# Altium schematic symbol library IC.SCHLIB: 146 symbols (part 1 of 2)
Pins are listed as number, name and electrical type; pins without a type are passive.

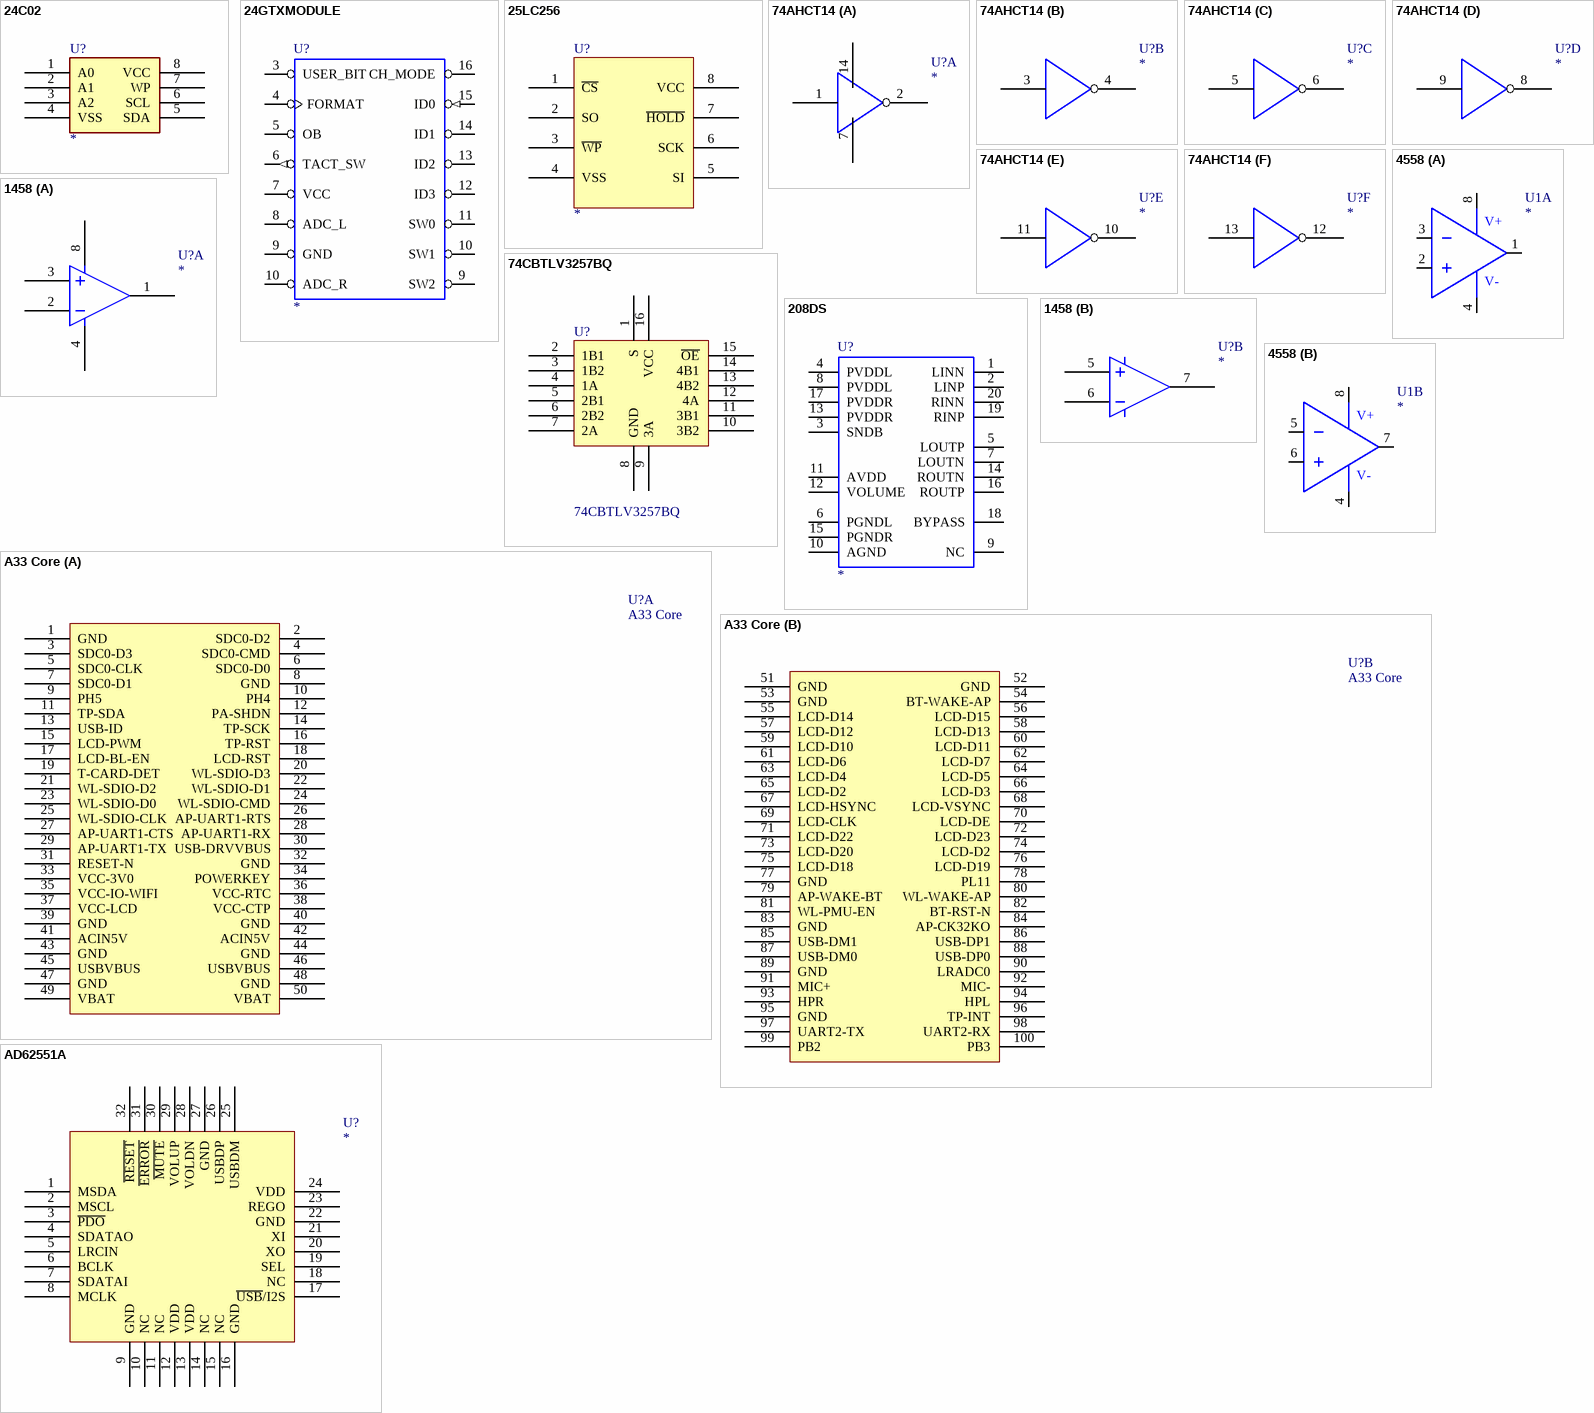
[diagram p0: symbols 24C02 to AD62551A]

## 24C02
designator U?
footprint SOP8
pins: 1 A0, 2 A1, 3 A2, 4 VSS, 5 SDA, 6 SCL, 7 WP, 8 VCC
2 alternate drawings of the same symbol

## 24GTXMODULE
designator U?
Connector
footprint 24GTXMODULE
pins: 3 USER_BIT, 4 FORMAT, 5 OB, 6 TACT_SW (out), 7 VCC, 8 ADC_L, 9 GND, 9 SW2, 10 ADC_R, 10 SW1, 11 SW0, 12 ID3, 13 ID2, 14 ID1, 15 ID0 (in), 16 CH_MODE

## 25LC256
designator U?
footprint 25LC256
pins: 1 ~{CS}, 2 SO, 3 ~{WP}, 4 VSS, 5 SI, 6 SCK, 7 ~{HOLD}, 8 VCC

## 74AHCT14
designator U?
footprint DIP-IC14
footprint DIP-IC14-1
part A pins: 1, 2, 7, 14
part B pins: 3, 4
part C pins: 5, 6
part D pins: 8, 9
part E pins: 10, 11
part F pins: 12, 13

## 74CBTLV3257BQ
designator U?
pins: 1 S, 2 1B1, 3 1B2, 4 1A, 5 2B1, 6 2B2, 7 2A, 8 GND, 9 3A, 10 3B2, 11 3B1, 12 4A, 13 4B2, 14 4B1, 15 ~{OE}, 16 VCC

## 208DS
designator U?
footprint SSOP20
footprint 208DS
pins: 1 LINN, 2 LINP, 3 SNDB, 4 PVDDL, 5 LOUTP, 6 PGNDL, 7 LOUTN, 8 PVDDL, 9 NC, 10 AGND, 11 AVDD, 12 VOLUME, 13 PVDDR, 14 ROUTN, 15 PGNDR, 16 ROUTP, 17 PVDDR, 18 BYPASS, 19 RINP, 20 RINN

## 1458
designator U?
footprint DIP-8
part A pins: 1, 2, 3, 4, 8
part B pins: 5, 6, 7

## 4558
designator U1
Filename: *
footprint SO-8
part A pins: 1 OUT2, 2 IN+, 3 IN-, 4 V-, 8 V+
part B pins: 4 V-, 5 IN-, 6 IN+, 7 OUT2, 8 V+
2 alternate drawings of the same symbol

## A33 Core
designator U?
part A pins: 1 GND, 2 SDC0-D2, 3 SDC0-D3, 4 SDC0-CMD, 5 SDC0-CLK, 6 SDC0-D0, 7 SDC0-D1, 8 GND, 9 PH5, 10 PH4, 11 TP-SDA, 12 PA-SHDN, 13 USB-ID, 14 TP-SCK, 15 LCD-PWM, 16 TP-RST, 17 LCD-BL-EN, 18 LCD-RST, 19 T-CARD-DET, 20 WL-SDIO-D3, 21 WL-SDIO-D2, 22 WL-SDIO-D1, 23 WL-SDIO-D0, 24 WL-SDIO-CMD, 25 WL-SDIO-CLK, 26 AP-UART1-RTS, 27 AP-UART1-CTS, 28 AP-UART1-RX, 29 AP-UART1-TX, 30 USB-DRVVBUS, 31 RESET-N, 32 GND, 33 VCC-3V0, 34 POWERKEY, 35 VCC-IO-WIFI, 36 VCC-RTC, 37 VCC-LCD, 38 VCC-CTP, 39 GND, 40 GND, 41 ACIN5V, 42 ACIN5V, 43 GND, 44 GND, 45 USBVBUS, 46 USBVBUS, 47 GND, 48 GND, 49 VBAT, 50 VBAT
part B pins: 51 GND, 52 GND, 53 GND, 54 BT-WAKE-AP, 55 LCD-D14, 56 LCD-D15, 57 LCD-D12, 58 LCD-D13, 59 LCD-D10, 60 LCD-D11, 61 LCD-D6, 62 LCD-D7, 63 LCD-D4, 64 LCD-D5, 65 LCD-D2, 66 LCD-D3, 67 LCD-HSYNC, 68 LCD-VSYNC, 69 LCD-CLK, 70 LCD-DE, 71 LCD-D22, 72 LCD-D23, 73 LCD-D20, 74 LCD-D2, 75 LCD-D18, 76 LCD-D19, 77 GND, 78 PL11, 79 AP-WAKE-BT, 80 WL-WAKE-AP, 81 WL-PMU-EN, 82 BT-RST-N, 83 GND, 84 AP-CK32KO, 85 USB-DM1, 86 USB-DP1, 87 USB-DM0, 88 USB-DP0, 89 GND, 90 LRADC0, 91 MIC+, 92 MIC-, 93 HPR, 94 HPL, 95 GND, 96 TP-INT, 97 UART2-TX, 98 UART2-RX, 99 PB2, 100 PB3

## AD62551A
designator U?
Connector
footprint IC32
pins: 1 MSDA, 2 MSCL, 3 ~{PDO}, 4 SDATAO, 5 LRCIN, 6 BCLK, 7 SDATAI, 8 MCLK, 9 GND, 10 NC, 11 NC, 12 VDD, 13 VDD, 14 NC, 15 NC, 16 GND, 17 ~{USB}/I2S, 18 NC, 19 SEL, 20 XO, 21 XI, 22 GND, 23 REGO, 24 VDD, 25 USBDM, 26 USBDP, 27 GND, 28 VOLDN, 29 VOLUP, 30 ~{MUTE}, 31 ~{ERROR}, 32 ~{RESET}

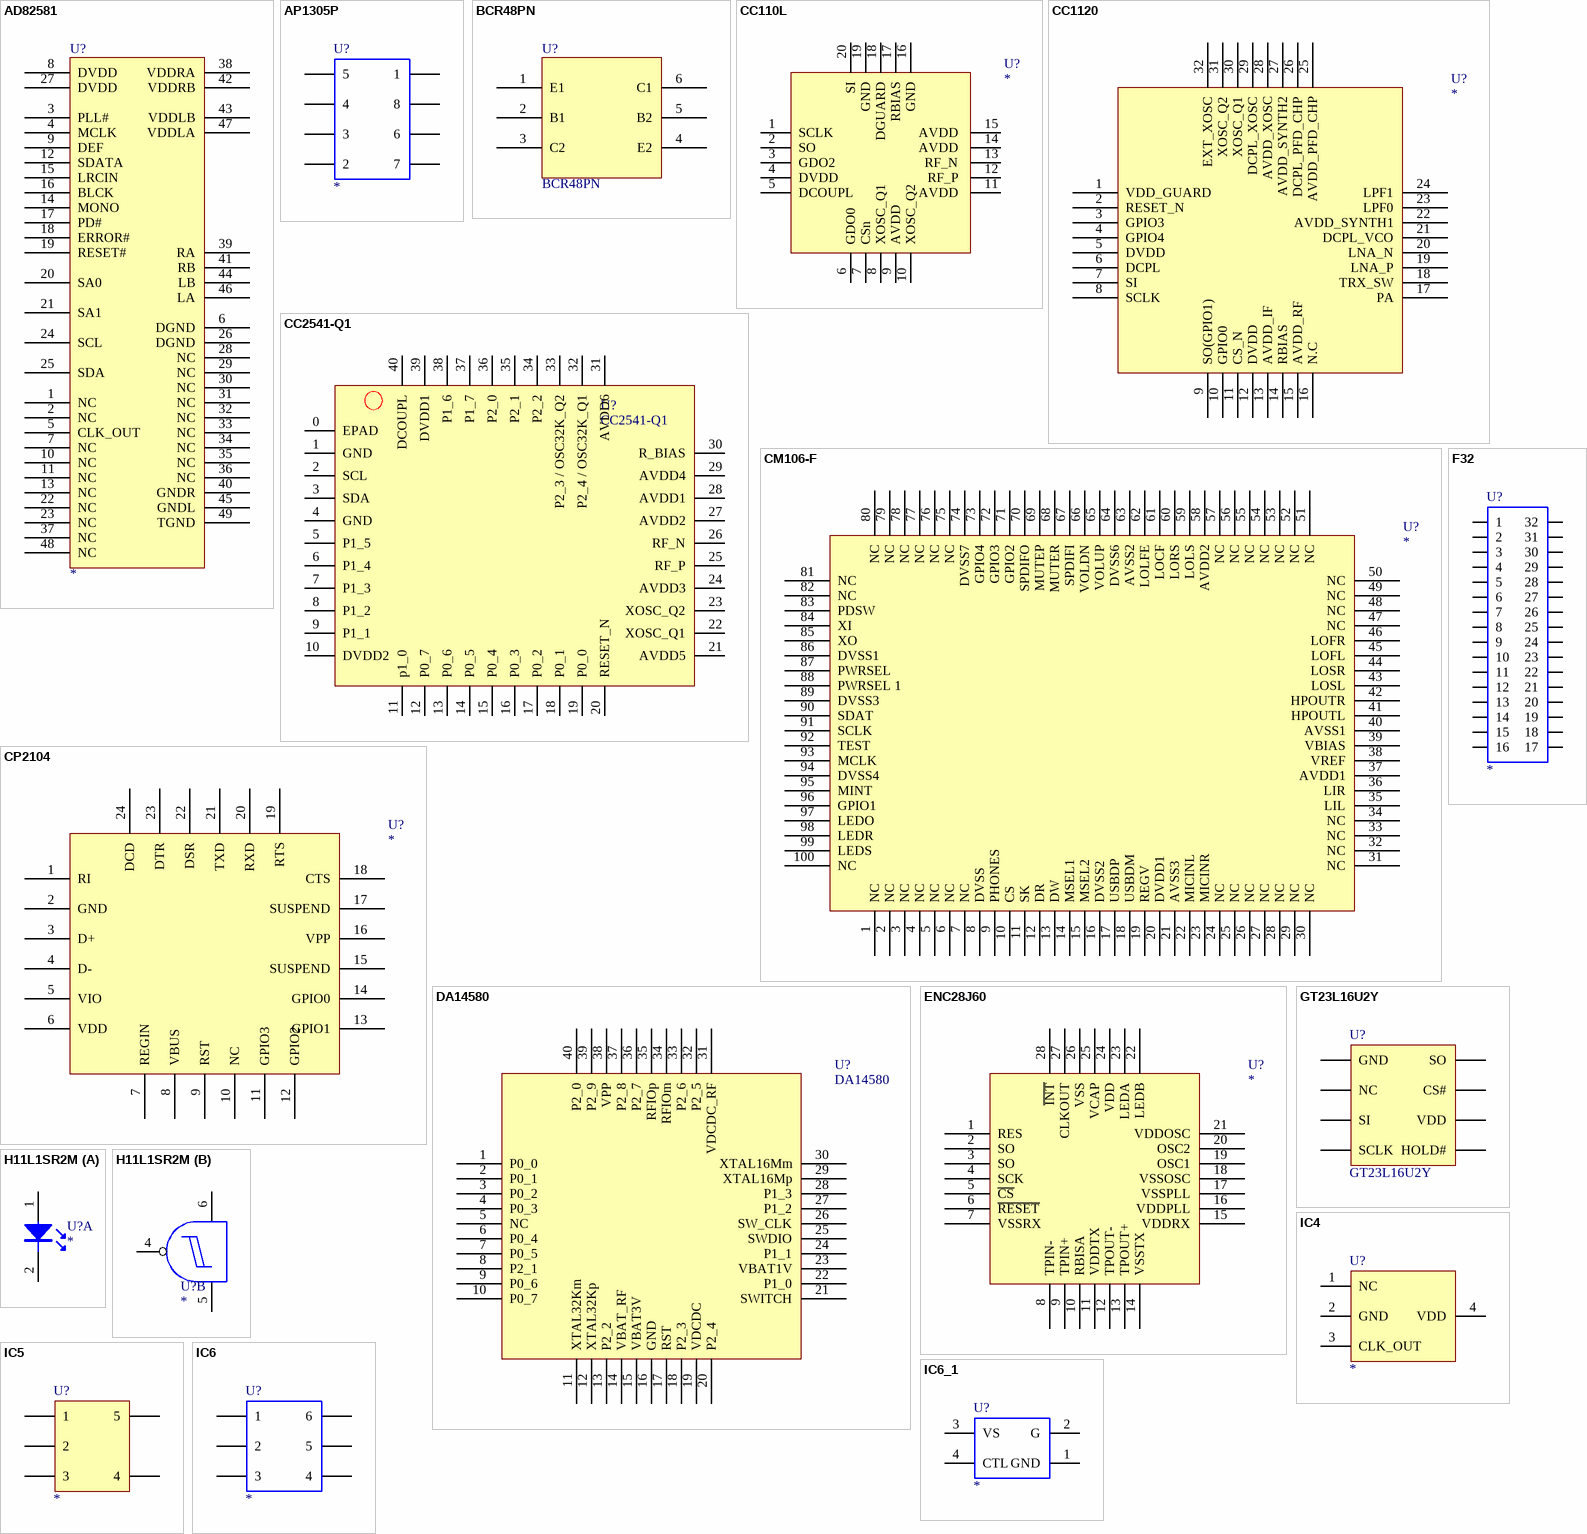
[diagram p1: symbols AD82581 to IC6_1]

## AD82581
designator U?
footprint S-PQFP-G48-2
pins: 1 NC, 2 NC, 3 PLL#, 4 MCLK, 5 CLK_OUT, 6 DGND, 7 NC, 8 DVDD, 9 DEF, 10 NC, 11 NC, 12 SDATA, 13 NC, 14 MONO, 15 LRCIN, 16 BLCK, 17 PD#, 18 ERROR#, 19 RESET#, 20 SA0, 21 SA1, 22 NC, 23 NC, 24 SCL, 25 SDA, 26 DGND, 27 DVDD, 28 NC, 29 NC, 30 NC, 31 NC, 32 NC, 33 NC, 34 NC, 35 NC, 36 NC, 37 NC, 38 VDDRA, 39 RA, 40 GNDR, 41 RB, 42 VDDRB, 43 VDDLB, 44 LB, 45 GNDL, 46 LA, 47 VDDLA, 48 NC, 49 TGND

## AP1305P
designator U?
footprint IC8
pins: 1, 2 8, 3 6, 4 7, 5 2, 6 3, 7 4, 8 5

## BCR48PN
designator U?
footprint SOT-23-6-0.65MM
pins: 1 E1, 2 B1, 3 C2, 4 E2, 5 B2, 6 C1
2 alternate drawings of the same symbol

## CC110L
designator U?
footprint QFN-20
pins: 1 SCLK , 2 SO , 3 GDO2  , 4 DVDD , 5 DCOUPL , 6 GDO0 , 7 CSn , 8 XOSC_Q1 , 9 AVDD , 10 XOSC_Q2  , 11 AVDD , 12 RF_P , 13 RF_N , 14 AVDD , 15 AVDD , 16 GND, 17 RBIAS, 18 DGUARD, 19 GND, 20 SI

## CC1120
designator U?
Connector
footprint CC1120
pins: 1 VDD_GUARD, 2 RESET_N, 3 GPIO3, 4 GPIO4, 5 DVDD, 6 DCPL, 7 SI, 8 SCLK, 9 SO(GPIO1), 10 GPIO0, 11 CS_N, 12 DVDD, 13 AVDD_IF, 14 RBIAS, 15 AVDD_RF, 16 N.C, 17 PA, 18 TRX_SW, 19 LNA_P, 20 LNA_N, 21 DCPL_VCO, 22 AVDD_SYNTH1, 23 LPF0, 24 LPF1, 25 AVDD_PFD_CHP, 26 DCPL_PFD_CHP, 27 AVDD_SYNTH2, 28 AVDD_XOSC, 29 DCPL_XOSC, 30 XOSC_Q1, 31 XOSC_Q2, 32 EXT_XOSC

## CC2541-Q1
designator U?
Connector
pins: 0 EPAD "RESET_N", 1 GND, 2 SCL, 3 SDA, 4 GND "NC", 5 P1_5, 6 P1_4, 7 P1_3, 8 P1_2, 9 P1_1, 10 DVDD2, 11 p1_0, 12 P0_7, 13 P0_6, 14 P0_5, 15 P0_4, 16 P0_3, 17 P0_2, 18 P0_1, 19 P0_0, 20 RESET_N, 21 AVDD5, 22 XOSC_Q1, 23 XOSC_Q2, 24 AVDD3, 25 RF_P, 26 RF_N, 27 AVDD2, 28 AVDD1, 29 AVDD4, 30 R_BIAS, 31 AVDD6, 32 P2_4 / OSC32K_Q1, 33 P2_3 / OSC32K_Q2, 34 P2_2, 35 P2_1, 36 P2_0, 37 P1_7, 38 P1_6, 39 DVDD1, 40 DCOUPL

## CM106-F
designator U?
USB Audio I/O Controller
footprint QFP100
pins: 1 NC, 2 NC, 3 NC, 4 NC, 5 NC, 6 NC, 7 NC, 8 DVSS, 9 PHONES, 10 CS, 11 SK, 12 DR, 13 DW, 14 MSEL1, 15 MSEL2, 16 DVSS2, 17 USBDP, 18 USBDM, 19 REGV, 20 DVDD1, 21 AVSS3, 22 MICINL, 23 MICINR, 24 NC, 25 NC, 26 NC, 27 NC, 28 NC, 29 NC, 30 NC, 31 NC, 32 NC, 33 NC, 34 NC, 35 LIL, 36 LIR, 37 AVDD1, 38 VREF, 39 VBIAS, 40 AVSS1, 41 HPOUTL, 42 HPOUTR, 43 LOSL, 44 LOSR, 45 LOFL, 46 LOFR, 47 NC, 48 NC, 49 NC, 50 NC, 51 NC, 52 NC, 53 NC, 54 NC, 55 NC, 56 NC, 57 NC, 58 AVDD2, 59 LOLS, 60 LORS, 61 LOCF, 62 LOLFE, 63 AVSS2, 64 DVSS6, 65 VOLUP, 66 VOLDN, 67 SPDIFI, 68 MUTER, 69 MUTEP, 70 SPDIFO, 71 GPIO2, 72 GPIO3, 73 GPIO4, 74 DVSS7, 75 NC, 76 NC, 77 NC, 78 NC, 79 NC, 80 NC, 81 NC, 82 NC, 83 PDSW, 84 XI, 85 XO, 86 DVSS1, 87 PWRSEL, 88 PWRSEL 1, 89 DVSS3, 90 SDAT, 91 SCLK, 92 TEST, 93 MCLK, 94 DVSS4, 95 MINT, 96 GPIO1, 97 LEDO, 98 LEDR, 99 LEDS, 100 NC

## CP2104
designator U?
footprint QFN-24-0.5MM-4X4
pins: 1 RI, 2 GND, 3 D+, 4 D-, 5 VIO, 6 VDD, 7 REGIN, 8 VBUS, 9 RST, 10 NC, 11 GPIO3, 12 GPIO2, 13 GPIO1, 14 GPIO0, 15 SUSPEND, 16 VPP, 17 SUSPEND, 18 CTS, 19 RTS, 20 RXD, 21 TXD, 22 DSR, 23 DTR, 24 DCD
2 alternate drawings of the same symbol

## DA14580
designator U?
Connector
pins: 1 P0_0, 2 P0_1, 3 P0_2, 4 P0_3, 5 NC, 6 P0_4, 7 P0_5, 8 P2_1, 9 P0_6, 10 P0_7, 11 XTAL32Km, 12 XTAL32Kp, 13 P2_2, 14 VBAT_RF, 15 VBAT3V, 16 GND, 17 RST, 18 P2_3, 19 VDCDC, 20 P2_4, 21 SWITCH, 22 P1_0, 23 VBAT1V, 24 P1_1, 25 SWDIO, 26 SW_CLK, 27 P1_2, 28 P1_3, 29 XTAL16Mp, 30 XTAL16Mm, 31 VDCDC_RF, 32 P2_5, 33 P2_6, 34 RFIOm, 35 RFIOp, 36 P2_7, 37 P2_8, 38 VPP, 39 P2_9, 40 P2_0

## ENC28J60
designator U?
footprint IC28
pins: 1 RES, 2 SO, 3 SO, 4 SCK, 5 ~{CS}, 6 ~{RESET}, 7 VSSRX, 8 TPIN-, 9 TPIN+, 10 RBISA, 11 VDDTX, 12 TPOUT-, 13 TPOUT+, 14 VSSTX, 15 VDDRX, 16 VDDPLL, 17 VSSPLL, 18 VSSOSC, 19 OSC1, 20 OSC2, 21 VDDOSC, 22 LEDB, 23 LEDA, 24 VDD, 25 VCAP, 26 VSS, 27 CLKOUT, 28 ~{INT}

## F32
designator U?
Connector
footprint F32
pins: 1, 2, 3, 4, 5, 6, 7, 8, 9, 10, 11, 12, 13, 14, 15, 16, 17, 18, 19, 20, 21, 22, 23, 24, 25, 26, 27, 28, 29, 30, 31, 32

## GT23L16U2Y
designator U?
footprint DNF8-A-GT23L16U2Y (Footprint not found)
footprint MSOP8
footprint DIC8
pins: 1 GND, 2 NC, 3 SI, 4 SCLK, 5 HOLD#, 6 VDD, 7 CS#, 8 SO

## H11L1SR2M
designator U?
part A pins: 1, 2
part B pins: 4, 5, 6

## IC4
designator U?
footprint IC5
pins: 1 NC, 2 GND, 3 CLK_OUT, 4 VDD

## IC5
designator U?
footprint IC5
pins: 1, 2, 3, 4, 5

## IC6
designator U?
footprint IC6
pins: 1, 2, 3, 4, 5, 6

## IC6_1
designator U?
pins: 1 GND, 2 G, 3 VS, 4 CTL

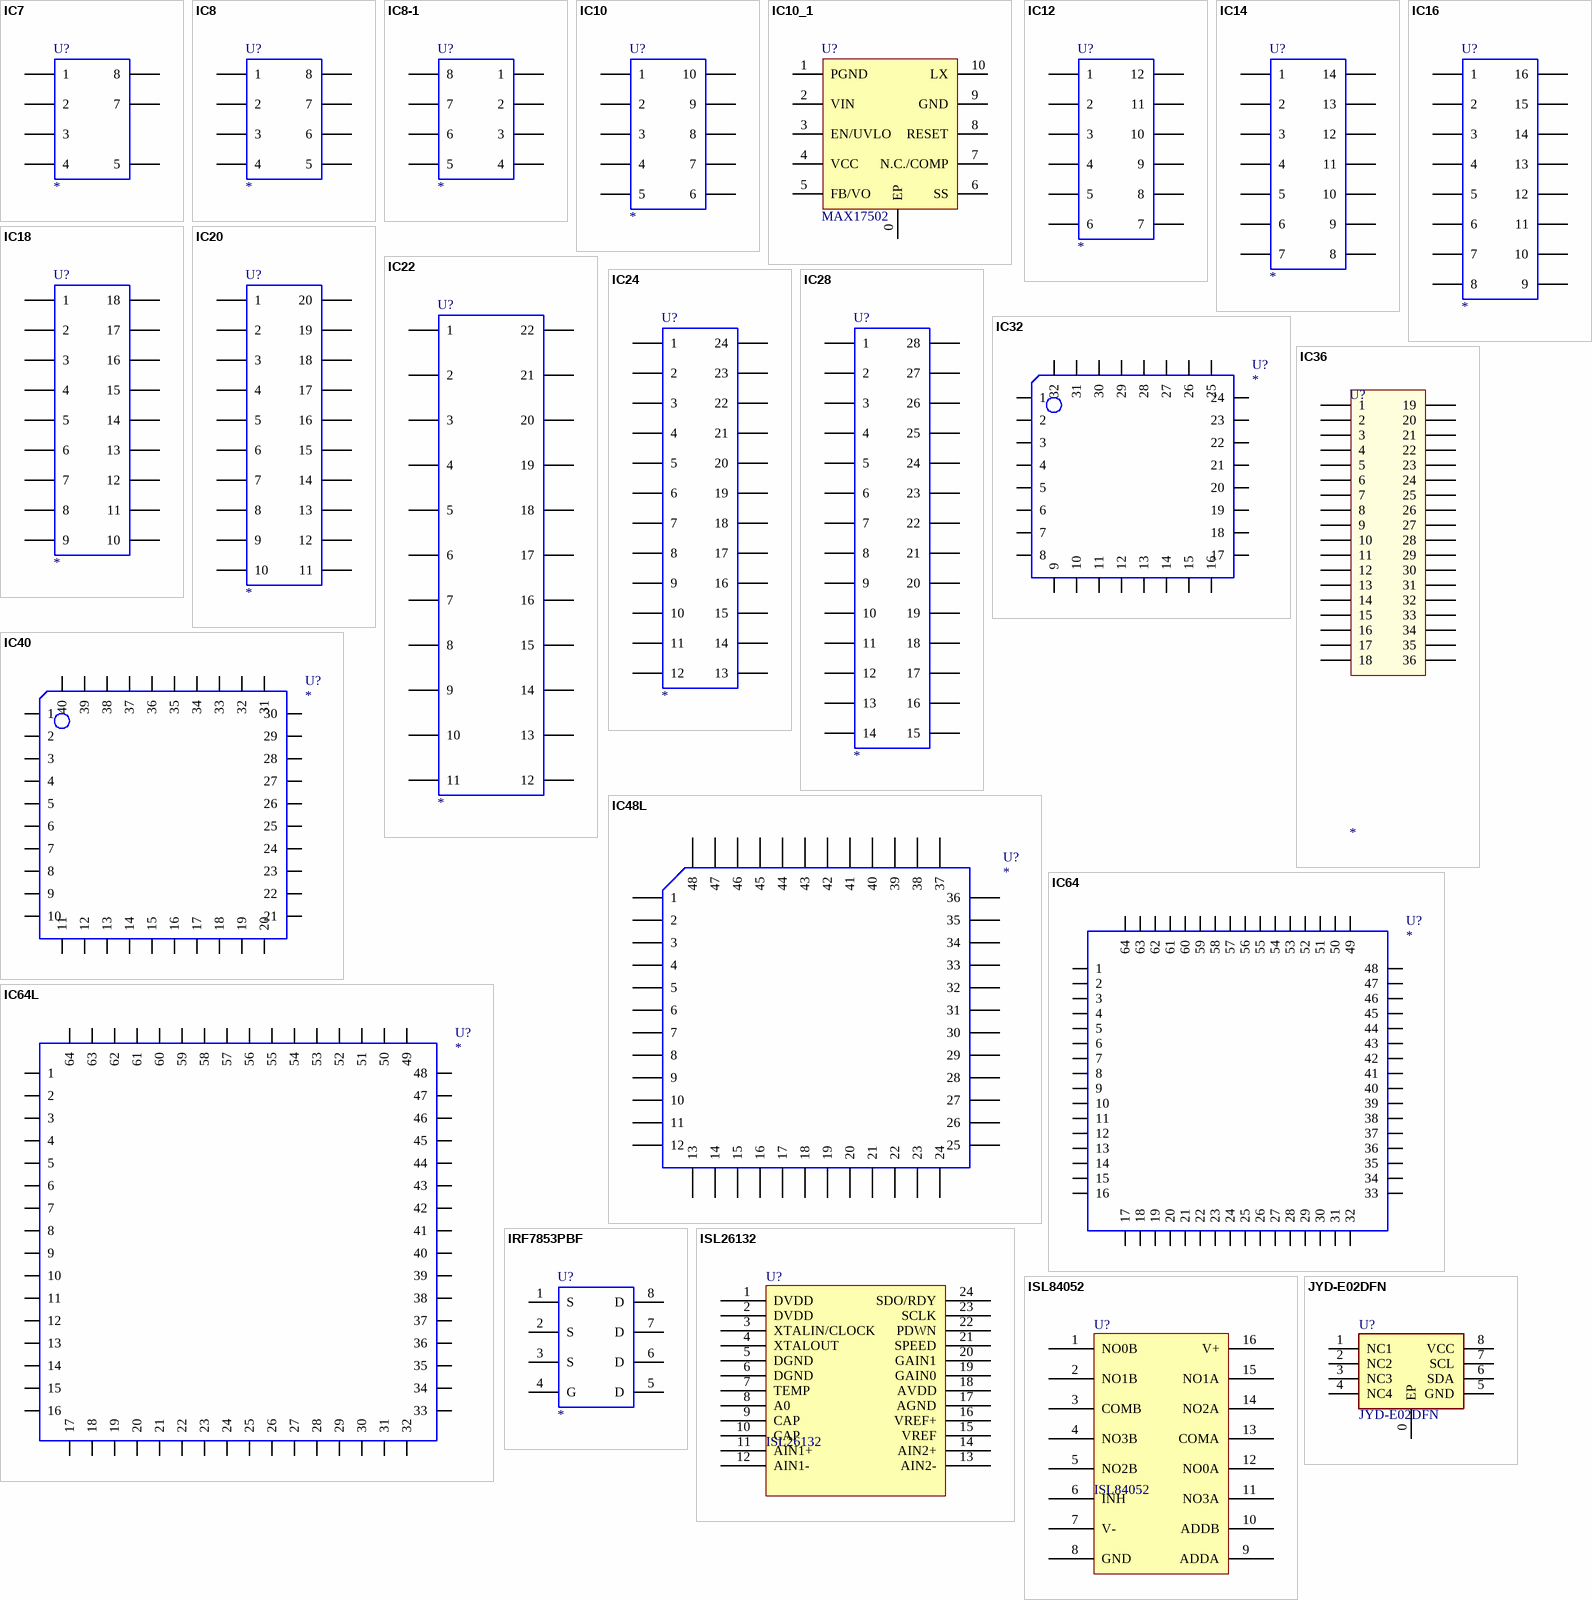
[diagram p2: symbols IC7 to JYD-E02DFN]

## IC7
designator U?
footprint SMD-8B
pins: 1, 2, 3, 4, 5, 7, 8

## IC8
designator U?
footprint IC8
footprint MSOP8
footprint DIC8
pins: 1, 2, 3, 4, 5, 6, 7, 8

## IC8-1
designator U?
footprint IC8
pins: 1, 2, 3, 4, 5, 6, 7, 8

## IC10
designator U?
footprint MIC10
pins: 1, 2, 3, 4, 5, 6, 7, 8, 9, 10

## IC10_1
designator U?, comment MAX17502
footprint MIC10
pins: 0 EP, 1 PGND, 2 VIN, 3 EN/UVLO, 4 VCC, 5 FB/VO, 6 SS, 7 N.C./COMP, 8 RESET, 9 GND, 10 LX

## IC12
designator U?
footprint DIE12
pins: 1, 2, 3, 4, 5, 6, 7, 8, 9, 10, 11, 12

## IC14
designator U?
footprint IC14
pins: 1, 2, 3, 4, 5, 6, 7, 8, 9, 10, 11, 12, 13, 14

## IC16
designator U?
footprint IC16
footprint SEN16
footprint SEN16A
pins: 1, 2, 3, 4, 5, 6, 7, 8, 9, 10, 11, 12, 13, 14, 15, 16

## IC18
designator U?
footprint IC18MA
footprint IC18
footprint DIP18
pins: 1, 2, 3, 4, 5, 6, 7, 8, 9, 10, 11, 12, 13, 14, 15, 16, 17, 18

## IC20
designator U?
footprint SEN20
footprint DIP18A
footprint IC20
footprint TSSOP20
pins: 1, 2, 3, 4, 5, 6, 7, 8, 9, 10, 11, 12, 13, 14, 15, 16, 17, 18, 19, 20

## IC22
designator U?
footprint IC22
pins: 1, 2, 3, 4, 5, 6, 7, 8, 9, 10, 11, 12, 13, 14, 15, 16, 17, 18, 19, 20, 21, 22

## IC24
designator U?
footprint SEN24
pins: 1, 2, 3, 4, 5, 6, 7, 8, 9, 10, 11, 12, 13, 14, 15, 16, 17, 18, 19, 20, 21, 22, 23, 24

## IC28
designator U?
footprint IC28
pins: 1, 2, 3, 4, 5, 6, 7, 8, 9, 10, 11, 12, 13, 14, 15, 16, 17, 18, 19, 20, 21, 22, 23, 24, 25, 26, 27, 28

## IC32
designator U?
Connector
footprint IC32
pins: 1, 2, 3, 4, 5, 6, 7, 8, 9, 10, 11, 12, 13, 14, 15, 16, 17, 18, 19, 20, 21, 22, 23, 24, 25, 26, 27, 28, 29, 30, 31, 32

## IC36
designator U?
footprint IC28
pins: 1, 2, 3, 4, 5, 6, 7, 8, 9, 10, 11, 12, 13, 14, 15, 16, 17, 18, 19, 20, 21, 22, 23, 24, 25, 26, 27, 28, 29, 30, 31, 32, 33, 34, 35, 36

## IC40
designator U?
Connector
pins: 1, 2, 3, 4, 5, 6, 7, 8, 9, 10, 11, 12, 13, 14, 15, 16, 17, 18, 19, 20, 21, 22, 23, 24, 25, 26, 27, 28, 29, 30, 31, 32, 33, 34, 35, 36, 37, 38, 39, 40

## IC48L
designator U?
footprint IC48
pins: 1, 2, 3, 4, 5, 6, 7, 8, 9, 10, 11, 12, 13, 14, 15, 16, 17, 18, 19, 20, 21, 22, 23, 24, 25, 26, 27, 28, 29, 30, 31, 32, 33, 34, 35, 36, 37, 38, 39, 40, 41, 42, 43, 44, 45, 46, 47, 48

## IC64
designator U?
footprint IC64
pins: 1, 2, 3, 4, 5, 6, 7, 8, 9, 10, 11, 12, 13, 14, 15, 16, 17, 18, 19, 20, 21, 22, 23, 24, 25, 26, 27, 28, 29, 30, 31, 32, 33, 34, 35, 36, 37, 38, 39, 40, 41, 42, 43, 44, 45, 46, 47, 48, 49, 50, 51, 52, 53, 54, 55, 56, 57, 58, 59, 60, 61, 62, 63, 64

## IC64L
designator U?
footprint IC64
pins: 1, 2, 3, 4, 5, 6, 7, 8, 9, 10, 11, 12, 13, 14, 15, 16, 17, 18, 19, 20, 21, 22, 23, 24, 25, 26, 27, 28, 29, 30, 31, 32, 33, 34, 35, 36, 37, 38, 39, 40, 41, 42, 43, 44, 45, 46, 47, 48, 49, 50, 51, 52, 53, 54, 55, 56, 57, 58, 59, 60, 61, 62, 63, 64

## IRF7853PBF
designator U?
footprint IC8
footprint MSOP8
footprint DIC8
pins: 1 S, 2 S, 3 S, 4 G, 5 D, 6 D, 7 D, 8 D

## ISL26132
designator U?
footprint 25LC256
pins: 1 DVDD, 2 DVDD, 3 XTALIN/CLOCK, 4 XTALOUT, 5 DGND, 6 DGND, 7 TEMP, 8 A0, 9 CAP, 10 CAP, 11 AIN1+, 12 AIN1-, 13 AIN2-, 14 AIN2+, 15 VREF, 16 VREF+, 17 AGND, 18 AVDD, 19 GAIN0, 20 GAIN1, 21 SPEED, 22 PDWN, 23 SCLK, 24 SDO/RDY

## ISL84052
designator U?
footprint 25LC256
pins: 1 NO0B, 2 NO1B, 3 COMB, 4 NO3B, 5 NO2B, 6 INH, 7 V-, 8 GND, 9 ADDA, 10 ADDB, 11 NO3A, 12 NO0A, 13 COMA, 14 NO2A, 15 NO1A, 16 V+

## JYD-E02DFN
designator U?
footprint DFN8_0-65P_3X3MM_0-8H
pins: 0 EP, 1 NC1, 2 NC2, 3 NC3, 4 NC4, 5 GND, 6 SDA, 7 SCL, 8 VCC
2 alternate drawings of the same symbol

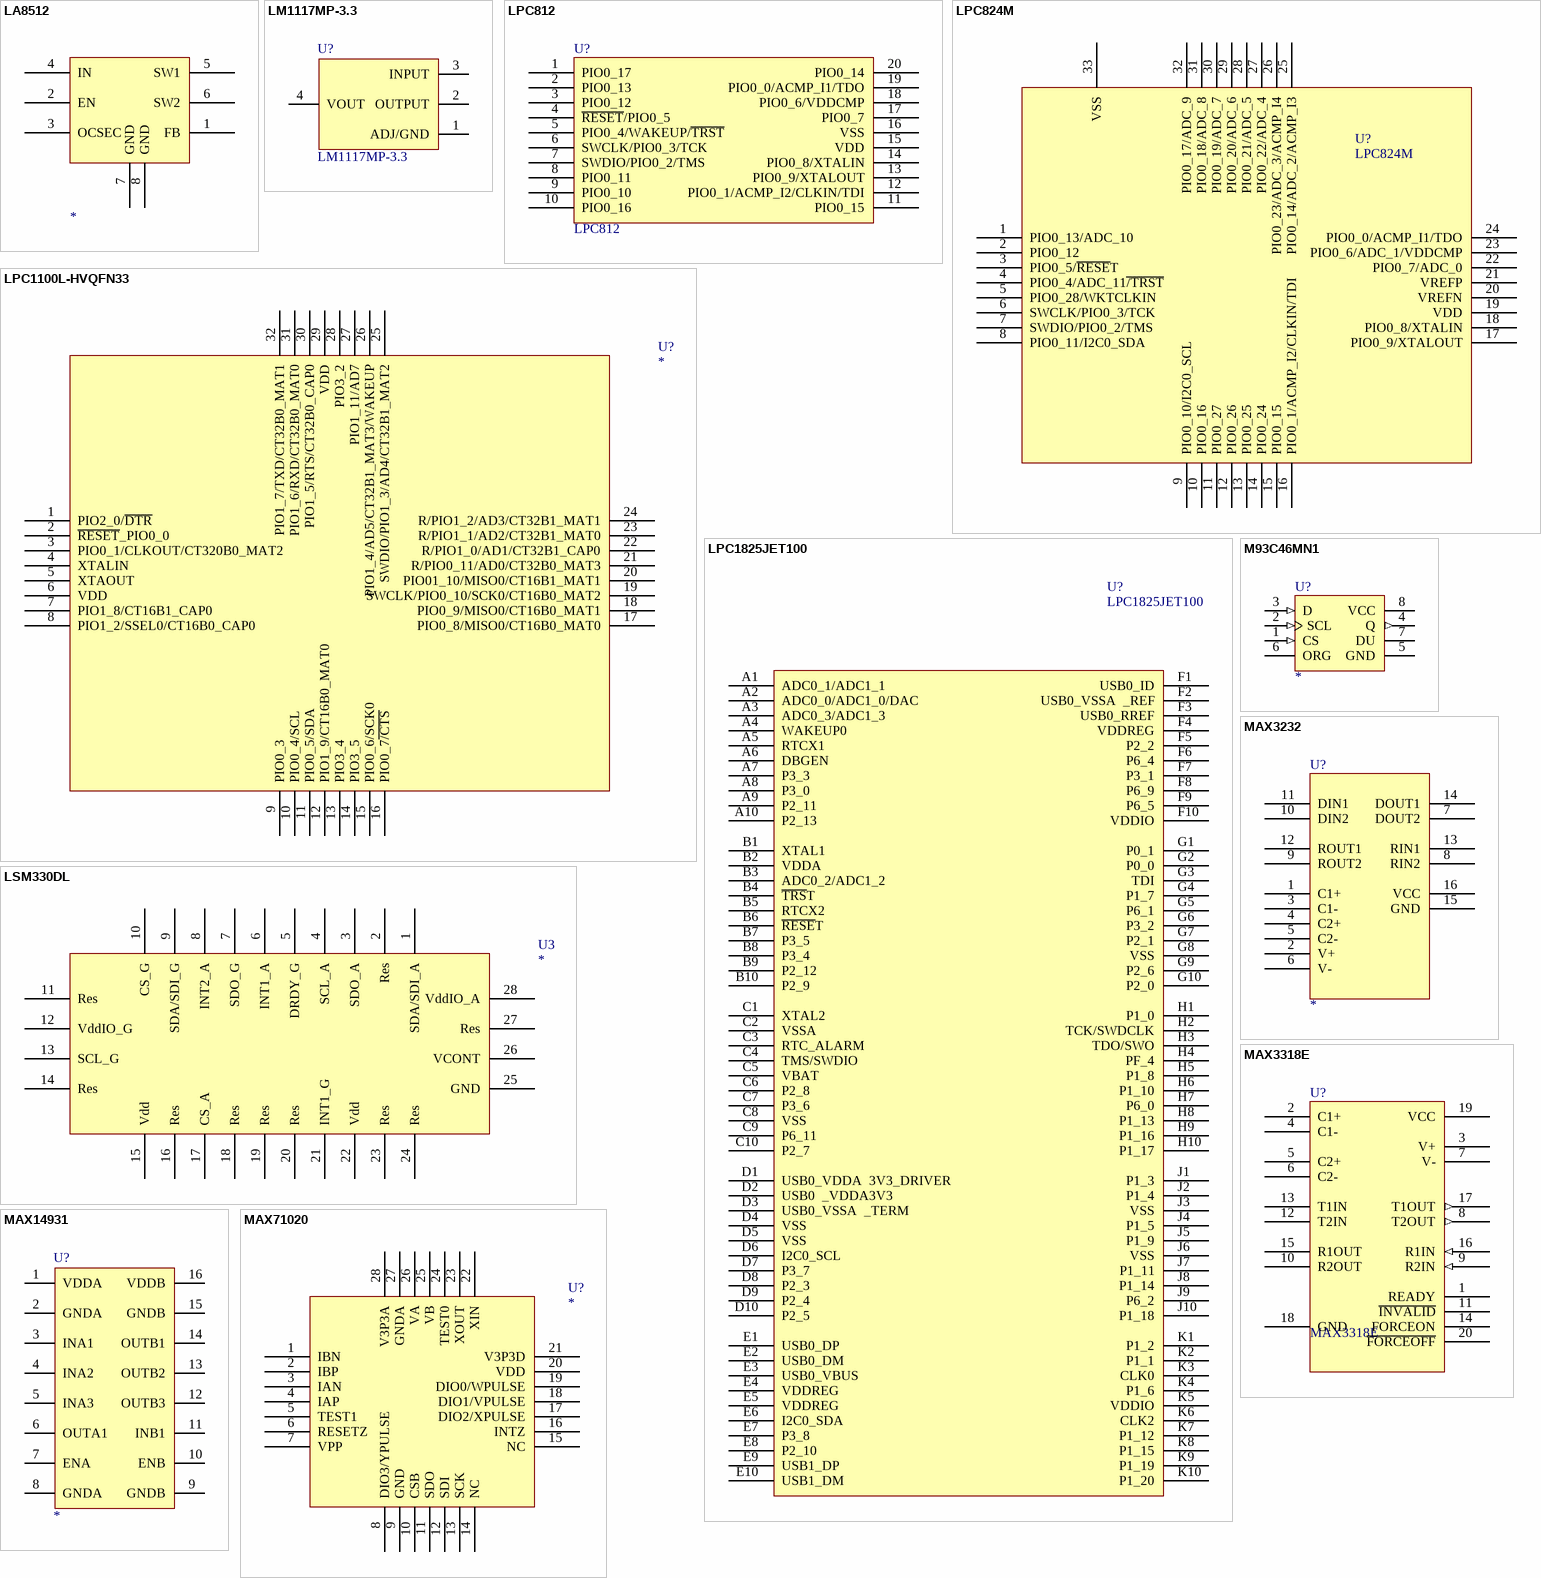
[diagram p3: symbols LA8512 to MAX71020]

## LA8512
designator ?
pins: 1 FB, 2 EN, 3 OCSEC, 4 IN, 5 SW1, 6 SW2, 7 GND, 8 GND

## LM1117MP-3.3
designator U?
footprint SOT-223-4
pins: 1 ADJ/GND, 2 OUTPUT, 3 INPUT, 4 VOUT

## LPC812
designator U?
footprint TSSOP20
pins: 1 PIO0_17, 2 PIO0_13, 3 PIO0_12, 4 ~{RESET}/PIO0_5, 5 PIO0_4/WAKEUP/~{TRST}, 6 SWCLK/PIO0_3/TCK, 7 SWDIO/PIO0_2/TMS, 8 PIO0_11, 9 PIO0_10, 10 PIO0_16, 11 PIO0_15, 12 PIO0_1/ACMP_I2/CLKIN/TDI, 13 PIO0_9/XTALOUT, 14 PIO0_8/XTALIN, 15 VDD, 16 VSS, 17 PIO0_7, 18 PIO0_6/VDDCMP, 19 PIO0_0/ACMP_I1/TDO, 20 PIO0_14

## LPC824M
designator U?
footprint HVQFN33-0.5MM-5X5-LPC824M
pins: 1 PIO0_13/ADC_10, 2 PIO0_12, 3 PIO0_5/~{RESE}T, 4 PIO0_4/ADC_11~{/TRST}, 5 PIO0_28/WKTCLKIN, 6 SWCLK/PIO0_3/TCK, 7 SWDIO/PIO0_2/TMS, 8 PIO0_11/I2C0_SDA, 9 PIO0_10/I2C0_SCL, 10 PIO0_16, 11 PIO0_27, 12 PIO0_26, 13 PIO0_25, 14 PIO0_24, 15 PIO0_15, 16 PIO0_1/ACMP_I2/CLKIN/TDI, 17 PIO0_9/XTALOUT, 18 PIO0_8/XTALIN, 19 VDD, 20 VREFN, 21 VREFP, 22 PIO0_7/ADC_0, 23 PIO0_6/ADC_1/VDDCMP, 24 PIO0_0/ACMP_I1/TDO, 25 PIO0_14/ADC_2/ACMP_I3, 26 PIO0_23/ADC_3/ACMP_I4, 27 PIO0_22/ADC_4, 28 PIO0_21/ADC_5, 29 PIO0_20/ADC_6, 30 PIO0_19/ADC_7, 31 PIO0_18/ADC_8, 32 PIO0_17/ADC_9, 33 VSS

## LPC1100L-HVQFN33
designator U?
Connector
footprint HVQFN33
pins: 1 PIO2_0/~{DTR}, 2 ~{RESET}_PIO0_0, 3 PIO0_1/CLKOUT/CT320B0_MAT2, 4 XTALIN, 5 XTAOUT, 6 VDD, 7 PIO1_8/CT16B1_CAP0, 8 PIO1_2/SSEL0/CT16B0_CAP0, 9 PIO0_3, 10 PIO0_4/SCL, 11 PIO0_5/SDA, 12 PIO1_9/CT16B0_MAT0, 13 PIO3_4, 14 PIO3_5, 15 PIO0_6/SCK0, 16 PIO0_7~{/CTS}, 17 PIO0_8/MISO0/CT16B0_MAT0, 18 PIO0_9/MISO0/CT16B0_MAT1, 19 SWCLK/PIO0_10/SCK0/CT16B0_MAT2, 20 PIO01_10/MISO0/CT16B1_MAT1, 21 R/PIO0_11/AD0/CT32B0_MAT3, 22 R/PIO1_0/AD1/CT32B1_CAP0, 23 R/PIO1_1/AD2/CT32B1_MAT0, 24 R/PIO1_2/AD3/CT32B1_MAT1, 25 SWDIO/PIO1_3/AD4/CT32B1_MAT2, 26 PIO1_4/AD5/CT32B1_MAT3/WAKEUP, 27 PIO1_11/AD7, 28 PIO3_2, 29 VDD, 30 PIO1_5/RTS/CT32B0_CAP0, 31 PIO1_6/RXD/CT32B0_MAT0, 32 PIO1_7/TXD/CT32B0_MAT1

## LPC1825JET100
designator U?
pins: A1 ADC0_1/ADC1_1, A2 ADC0_0/ADC1_0/DAC, A3 ADC0_3/ADC1_3, A4 WAKEUP0, A5 RTCX1, A6 DBGEN, A7 P3_3, A8 P3_0, A9 P2_11, A10 P2_13, B1 XTAL1, B2 VDDA, B3 ADC0_2/ADC1_2, B4 ~{TRS}T, B5 RTCX2, B6 ~{RESE}T, B7 P3_5, B8 P3_4, B9 P2_12, B10 P2_9, C1 XTAL2, C2 VSSA, C3 RTC_ALARM, C4 TMS/SWDIO, C5 VBAT, C6 P2_8, C7 P3_6, C8 VSS, C9 P6_11, C10 P2_7, D1 USB0_VDDA  3V3_DRIVER, D2 USB0  _VDDA3V3, D3 USB0_VSSA  _TERM, D4 VSS, D5 VSS, D6 I2C0_SCL, D7 P3_7, D8 P2_3, D9 P2_4, D10 P2_5, E1 USB0_DP, E2 USB0_DM, E3 USB0_VBUS, E4 VDDREG, E5 VDDREG, E6 I2C0_SDA, E7 P3_8, E8 P2_10, E9 USB1_DP, E10 USB1_DM, F1 USB0_ID, F2 USB0_VSSA  _REF, F3 USB0_RREF, F4 VDDREG, F5 P2_2, F6 P6_4, F7 P3_1, F8 P6_9, F9 P6_5, F10 VDDIO, G1 P0_1, G2 P0_0, G3 TDI, G4 P1_7, G5 P6_1, G6 P3_2, G7 P2_1, G8 VSS, G9 P2_6, G10 P2_0, H1 P1_0, H2 TCK/SWDCLK, H3 TDO/SWO, H4 PF_4, H5 P1_8, H6 P1_10, H7 P6_0, H8 P1_13, H9 P1_16, H10 P1_17, J1 P1_3, J2 P1_4, J3 VSS, J4 P1_5, J5 P1_9, J6 VSS, J7 P1_11, J8 P1_14, J9 P6_2, J10 P1_18, K1 P1_2, K2 P1_1, K3 CLK0, K4 P1_6, K5 VDDIO, K6 CLK2, K7 P1_12, K8 P1_15, K9 P1_19, K10 P1_20

## LSM330DL
designator U3
footprint LLGA28L
pins: 1 SDA/SDI_A, 2 Res, 3 SDO_A, 4 SCL_A, 5 DRDY_G, 6 INT1_A, 7 SDO_G, 8 INT2_A, 9 SDA/SDI_G, 10 CS_G, 11 Res, 12 VddIO_G, 13 SCL_G, 14 Res, 15 Vdd, 16 Res, 17 CS_A, 18 Res, 19 Res, 20 Res, 21 INT1_G, 22 Vdd, 23 Res, 24 Res, 25 GND, 26 VCONT, 27 Res, 28 VddIO_A
2 alternate drawings of the same symbol

## M93C46MN1
designator U?
1Kb (x8/x16) Serial Microwire Bus EEPROM; Text Field6: Do Not Use pin number 7 (DU).; Text Field7: Published 24-Aug-2001
footprint SO-G8/E2.9
pins: 1 CS (in), 2 SCL (in), 3 D (in), 4 Q (out), 5 GND (power), 6 ORG, 7 DU, 8 VCC (power)

## MAX3232
designator U?
footprint TSSOP16
pins: 1 C1+, 2 V+, 3 C1-, 4 C2+, 5 C2-, 6 V-, 7 DOUT2, 8 RIN2, 9 ROUT2, 10 DIN2, 11 DIN1, 12 ROUT1, 13 RIN1, 14 DOUT1, 15 GND, 16 VCC

## MAX3318E
designator U?
footprint TSSOP20
pins: 1 READY, 2 C1+, 3 V+, 4 C1-, 5 C2+, 6 C2-, 7 V-, 8 T2OUT (out), 9 R2IN (in), 10 R2OUT, 11 ~{INVALID}, 12 T2IN, 13 T1IN, 14 FORCEON, 15 R1OUT, 16 R1IN (in), 17 T1OUT (out), 18 GND, 19 VCC, 20 ~{FORCEOFF}

## MAX14931
designator U?
footprint IC16
footprint SEN16
footprint SEN16A
pins: 1 VDDA, 2 GNDA, 3 INA1, 4 INA2, 5 INA3, 6 OUTA1, 7 ENA, 8 GNDA, 9 GNDB, 10 ENB, 11 INB1, 12 OUTB3, 13 OUTB2, 14 OUTB1, 15 GNDB, 16 VDDB

## MAX71020
designator U?
footprint IC28
pins: 1 IBN, 2 IBP, 3 IAN, 4 IAP, 5 TEST1, 6 RESETZ, 7 VPP, 8 DIO3/YPULSE, 9 GND, 10 CSB, 11 SDO, 12 SDI, 13 SCK, 14 NC, 15 NC, 16 INTZ, 17 DIO2/XPULSE, 18 DIO1/VPULSE, 19 DIO0/WPULSE, 20 VDD, 21 V3P3D, 22 XIN, 23 XOUT, 24 TEST0, 25 VB, 26 VA, 27 GNDA, 28 V3P3A

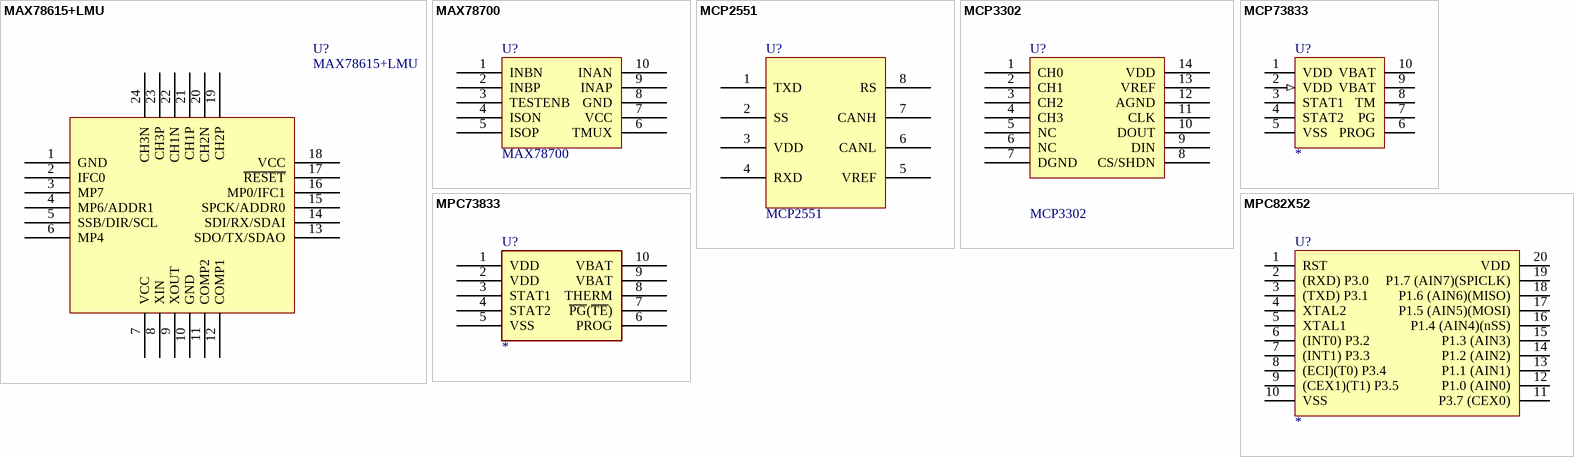
[diagram p4: symbols MAX78615+LMU to MPC73833]

## MAX78615+LMU
designator U?
footprint QFN32
pins: 1 GND, 2 IFC0, 3 MP7, 4 MP6/ADDR1, 5 SSB/DIR/SCL, 6 MP4, 7 VCC, 8 XIN, 9 XOUT, 10 GND, 11 COMP2, 12 COMP1, 13 SDO/TX/SDAO, 14 SDI/RX/SDAI, 15 SPCK/ADDR0, 16 MP0/IFC1, 17 ~{RESET}, 18 VCC, 19 CH2P, 20 CH2N, 21 CH1P, 22 CH1N, 23 CH3P, 24 CH3N

## MAX78700
designator U?
footprint MSOP10
footprint DFN-10
pins: 1 INBN, 2 INBP, 3 TESTENB, 4 ISON, 5 ISOP, 6 TMUX, 7 VCC, 8 GND, 9 INAP, 10 INAN
2 alternate drawings of the same symbol

## MCP2551
designator U?
pins: 1 TXD, 2 SS, 3 VDD, 4 RXD, 5 VREF, 6 CANL, 7 CANH, 8 RS

## MCP3302
designator U?
footprint 25LC256
pins: 1 CH0, 2 CH1, 3 CH2, 4 CH3, 5 NC, 6 NC, 7 DGND, 8 CS/SHDN, 9 DIN, 10 DOUT, 11 CLK, 12 AGND, 13 VREF, 14 VDD

## MCP73833
designator U?
Text Field1: 69; Text Field2: 60
footprint DFN-10
pins: 1 VDD, 2 VDD (in), 3 STAT1, 4 STAT2, 5 VSS, 6 PROG, 7 PG, 8 TM, 9 VBAT, 10 VBAT

## MPC82X52
designator U?
footprint TSSOP20
pins: 1 RST, 2 (RXD) P3.0, 3 (TXD) P3.1, 4 XTAL2, 5 XTAL1, 6 (INT0) P3.2, 7 (INT1) P3.3, 8 (ECI)(T0) P3.4, 9 (CEX1)(T1) P3.5, 10 VSS, 11 P3.7 (CEX0), 12 P1.0 (AIN0), 13 P1.1 (AIN1), 14 P1.2 (AIN2), 15 P1.3 (AIN3), 16 P1.4 (AIN4)(nSS), 17 P1.5 (AIN5)(MOSI), 18 P1.6 (AIN6)(MISO), 19 P1.7 (AIN7)(SPICLK), 20 VDD

## MPC73833
designator U?
footprint MSOP10
footprint DFN-10
pins: 1 VDD, 2 VDD, 3 STAT1, 4 STAT2, 5 VSS, 6 PROG, 7 ~{PG}(~{TE}), 8 THERM, 9 VBAT, 10 VBAT
2 alternate drawings of the same symbol

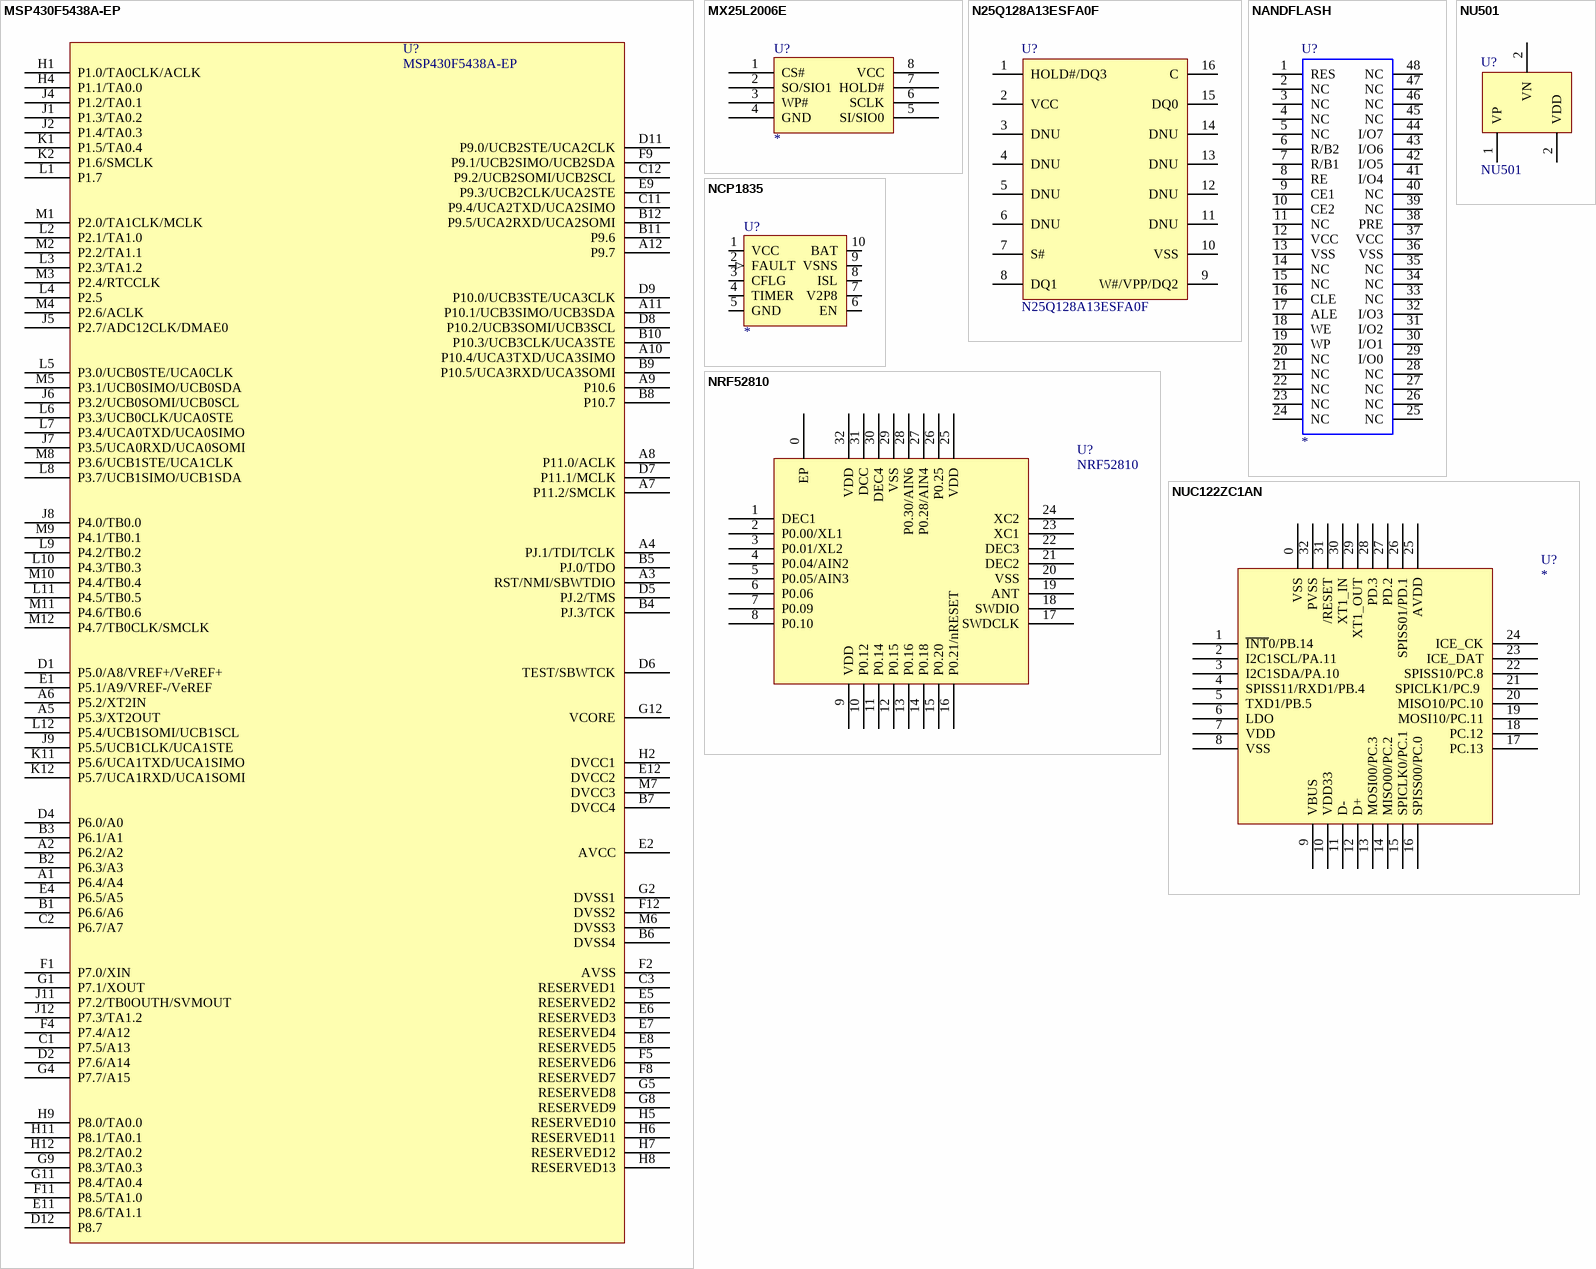
[diagram p5: symbols MSP430F5438A-EP to NUC122ZC1AN]

## MSP430F5438A-EP
designator U?
pins: A1 P6.4/A4, A2 P6.2/A2, A3 RST/NMI/SBWTDIO, A4 PJ.1/TDI/TCLK, A5 P5.3/XT2OUT, A6 P5.2/XT2IN, A7 P11.2/SMCLK, A8 P11.0/ACLK, A9 P10.6, A10 P10.4/UCA3TXD/UCA3SIMO, A11 P10.1/UCB3SIMO/UCB3SDA, A12 P9.7, B1 P6.6/A6, B2 P6.3/A3, B3 P6.1/A1, B4 PJ.3/TCK, B5 PJ.0/TDO, B6 DVSS4, B7 DVCC4, B8 P10.7, B9 P10.5/UCA3RXD/UCA3SOMI, B10 P10.3/UCB3CLK/UCA3STE, B11 P9.6, B12 P9.5/UCA2RXD/UCA2SOMI, C1 P7.5/A13, C2 P6.7/A7, C3 RESERVED1, C11 P9.4/UCA2TXD/UCA2SIMO, C12 P9.2/UCB2SOMI/UCB2SCL, D1 P5.0/A8/VREF+/VeREF+, D2 P7.6/A14, D4 P6.0/A0, D5 PJ.2/TMS, D6 TEST/SBWTCK, D7 P11.1/MCLK, D8 P10.2/UCB3SOMI/UCB3SCL, D9 P10.0/UCB3STE/UCA3CLK, D11 P9.0/UCB2STE/UCA2CLK, D12 P8.7, E1 P5.1/A9/VREF-/VeREF, E2 AVCC, E4 P6.5/A5, E5 RESERVED2, E6 RESERVED3, E7 RESERVED4, E8 RESERVED5, E9 P9.3/UCB2CLK/UCA2STE, E11 P8.6/TA1.1, E12 DVCC2, F1 P7.0/XIN, F2 AVSS, F4 P7.4/A12, F5 RESERVED6, F8 RESERVED7, F9 P9.1/UCB2SIMO/UCB2SDA, F11 P8.5/TA1.0, F12 DVSS2, G1 P7.1/XOUT, G2 DVSS1, G4 P7.7/A15, G5 RESERVED8, G8 RESERVED9, G9 P8.3/TA0.3, G11 P8.4/TA0.4, G12 VCORE, H1 P1.0/TA0CLK/ACLK, H2 DVCC1, H4 P1.1/TA0.0, H5 RESERVED10, H6 RESERVED11, H7 RESERVED12, H8 RESERVED13, H9 P8.0/TA0.0, H11 P8.1/TA0.1, H12 P8.2/TA0.2, J1 P1.3/TA0.2, J2 P1.4/TA0.3, J4 P1.2/TA0.1, J5 P2.7/ADC12CLK/DMAE0, J6 P3.2/UCB0SOMI/UCB0SCL, J7 P3.5/UCA0RXD/UCA0SOMI, J8 P4.0/TB0.0, J9 P5.5/UCB1CLK/UCA1STE, J11 P7.2/TB0OUTH/SVMOUT, J12 P7.3/TA1.2, K1 P1.5/TA0.4, K2 P1.6/SMCLK, K11 P5.6/UCA1TXD/UCA1SIMO, K12 P5.7/UCA1RXD/UCA1SOMI, L1 P1.7, L2 P2.1/TA1.0, L3 P2.3/TA1.2, L4 P2.5, L5 P3.0/UCB0STE/UCA0CLK, L6 P3.3/UCB0CLK/UCA0STE, L7 P3.4/UCA0TXD/UCA0SIMO, L8 P3.7/UCB1SIMO/UCB1SDA, L9 P4.2/TB0.2, L10 P4.3/TB0.3, L11 P4.5/TB0.5, L12 P5.4/UCB1SOMI/UCB1SCL, M1 P2.0/TA1CLK/MCLK, M2 P2.2/TA1.1, M3 P2.4/RTCCLK, M4 P2.6/ACLK, M5 P3.1/UCB0SIMO/UCB0SDA, M6 DVSS3, M7 DVCC3, M8 P3.6/UCB1STE/UCA1CLK, M9 P4.1/TB0.1, M10 P4.4/TB0.4, M11 P4.6/TB0.6, M12 P4.7/TB0CLK/SMCLK

## MX25L2006E
designator U?
pins: 1 CS#, 2 SO/SIO1, 3 WP#, 4 GND, 5 SI/SIO0, 6 SCLK, 7 HOLD#, 8 VCC
2 alternate drawings of the same symbol

## N25Q128A13ESFA0F
designator U?
footprint SOP2-16-300MIL
footprint SEN16
footprint SEN16A
pins: 1 HOLD#/DQ3, 2 VCC, 3 DNU, 4 DNU, 5 DNU, 6 DNU, 7 S#, 8 DQ1, 9 W#/VPP/DQ2, 10 VSS, 11 DNU, 12 DNU, 13 DNU, 14 DNU, 15 DQ0, 16 C

## NANDFLASH
designator U?
footprint NANDFLASH
pins: 1 RES, 2 NC, 3 NC, 4 NC, 5 NC, 6 R/B2, 7 R/B1, 8 RE, 9 CE1, 10 CE2, 11 NC, 12 VCC, 13 VSS, 14 NC, 15 NC, 16 CLE, 17 ALE, 18 WE, 19 WP, 20 NC, 21 NC, 22 NC, 23 NC, 24 NC, 25 NC, 26 NC, 27 NC, 28 NC, 29 I/O0, 30 I/O1, 31 I/O2, 32 I/O3, 33 NC, 34 NC, 35 NC, 36 VSS, 37 VCC, 38 PRE, 39 NC, 40 NC, 41 I/O4, 42 I/O5, 43 I/O6, 44 I/O7, 45 NC, 46 NC, 47 NC, 48 NC

## NCP1835
designator U?
Text Field1: 69; Text Field2: 60
footprint NCP1835-D
pins: 1 VCC, 2 FAULT (in), 3 CFLG, 4 TIMER, 5 GND, 6 EN, 7 V2P8, 8 ISL, 9 VSNS, 10 BAT

## NRF52810
designator U?
Connector
footprint QFN-32-0.5MM-5X5_STM32L432-new
pins: 0 EP, 1 DEC1, 2 P0.00/XL1, 3 P0.01/XL2, 4 P0.04/AIN2, 5 P0.05/AIN3, 6 P0.06, 7 P0.09, 8 P0.10, 9 VDD, 10 P0.12, 11 P0.14, 12 P0.15, 13 P0.16, 14 P0.18, 15 P0.20, 16 P0.21/nRESET, 17 SWDCLK, 18 SWDIO, 19 ANT, 20 VSS, 21 DEC2, 22 DEC3, 23 XC1, 24 XC2, 25 VDD, 26 P0.25, 27 P0.28/AIN4, 28 P0.30/AIN6, 29 VSS, 30 DEC4, 31 DCC, 32 VDD

## NU501
designator U?
footprint SOT-23 - NU501
pins: 1 VP, 2 VN, 2 VDD

## NUC122ZC1AN
designator U?
Connector
footprint QFN32
pins: 0 VSS, 1 ~{INT}0/PB.14, 2 I2C1SCL/PA.11, 3 I2C1SDA/PA.10, 4 SPISS11/RXD1/PB.4, 5 TXD1/PB.5, 6 LDO, 7 VDD, 8 VSS, 9 VBUS, 10 VDD33, 11 D-, 12 D+, 13 MOSI00/PC.3, 14 MISO00/PC.2, 15 SPICLK0/PC.1, 16 SPISS00/PC.0, 17 PC.13, 18 PC.12, 19 MOSI10/PC.11, 20 MISO10/PC.10, 21 SPICLK1/PC.9 , 22 SPISS10/PC.8, 23 ICE_DAT, 24 ICE_CK, 25 AVDD, 26 SPISS01/PD.1, 27 PD.2, 28 PD.3, 29 XT1_OUT, 30 XT1_IN, 31 /RESET, 32 PVSS

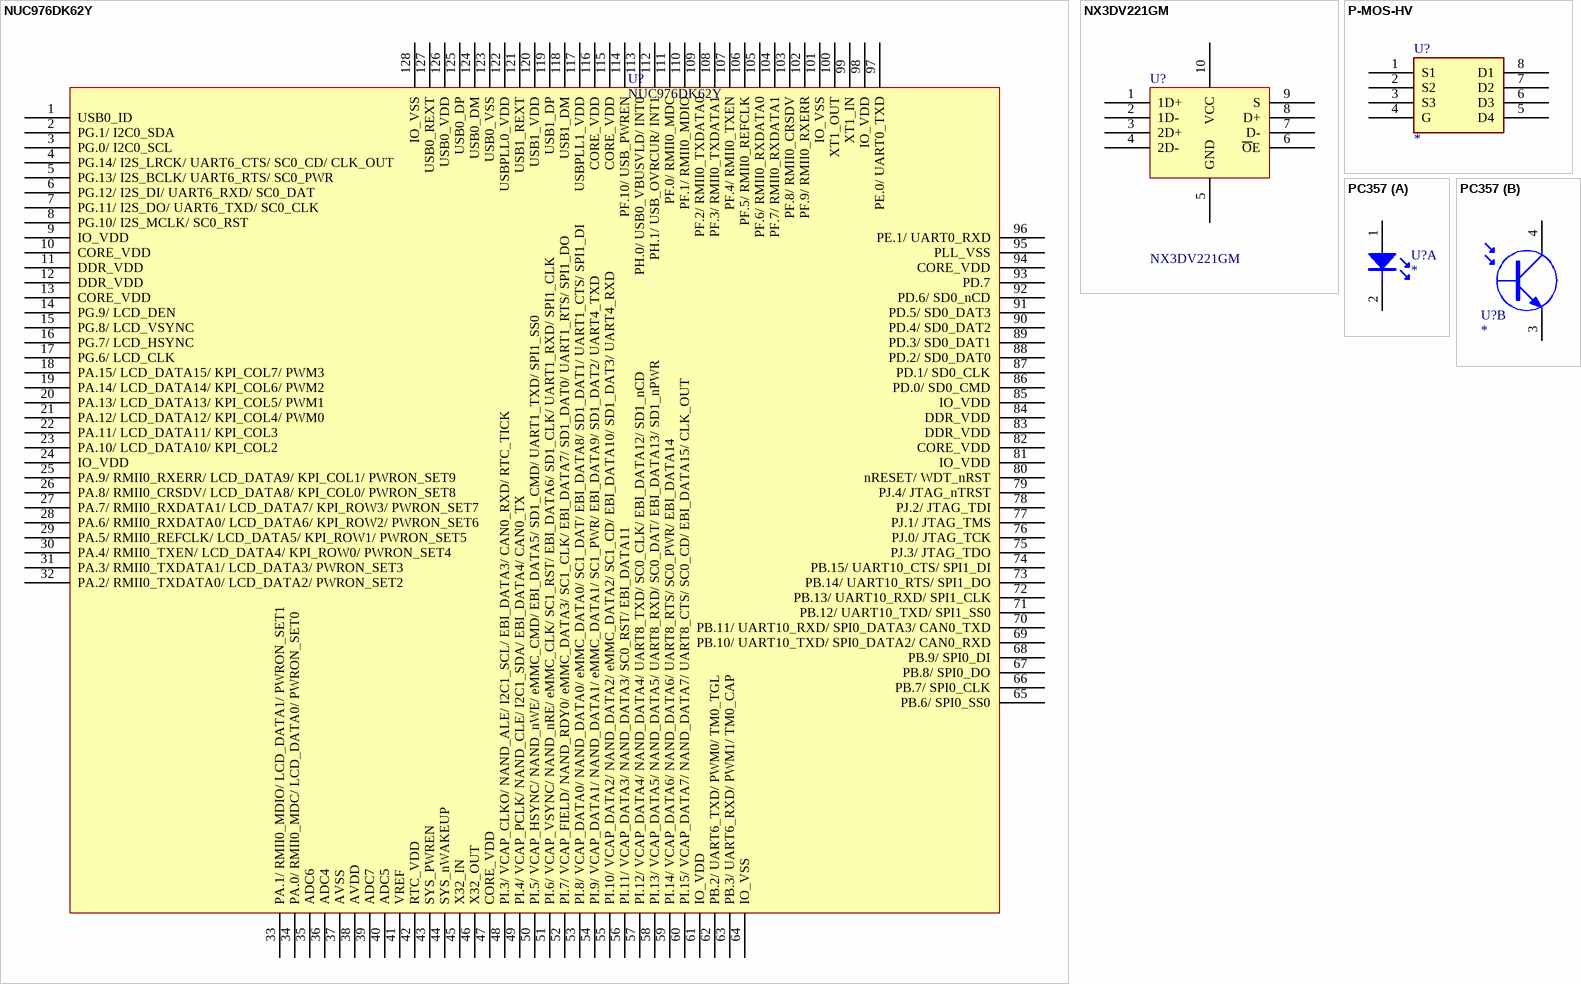
[diagram p6: symbols NUC976DK62Y to PC357]

## NUC976DK62Y
designator U?
pins: 1 USB0_ID, 2 PG.1/ I2C0_SDA, 3 PG.0/ I2C0_SCL, 4 PG.14/ I2S_LRCK/ UART6_CTS/ SC0_CD/ CLK_OUT, 5 PG.13/ I2S_BCLK/ UART6_RTS/ SC0_PWR, 6 PG.12/ I2S_DI/ UART6_RXD/ SC0_DAT, 7 PG.11/ I2S_DO/ UART6_TXD/ SC0_CLK, 8 PG.10/ I2S_MCLK/ SC0_RST, 9 IO_VDD, 10 CORE_VDD, 11 DDR_VDD, 12 DDR_VDD, 13 CORE_VDD, 14 PG.9/ LCD_DEN, 15 PG.8/ LCD_VSYNC, 16 PG.7/ LCD_HSYNC, 17 PG.6/ LCD_CLK, 18 PA.15/ LCD_DATA15/ KPI_COL7/ PWM3, 19 PA.14/ LCD_DATA14/ KPI_COL6/ PWM2, 20 PA.13/ LCD_DATA13/ KPI_COL5/ PWM1, 21 PA.12/ LCD_DATA12/ KPI_COL4/ PWM0, 22 PA.11/ LCD_DATA11/ KPI_COL3, 23 PA.10/ LCD_DATA10/ KPI_COL2, 24 IO_VDD, 25 PA.9/ RMII0_RXERR/ LCD_DATA9/ KPI_COL1/ PWRON_SET9, 26 PA.8/ RMII0_CRSDV/ LCD_DATA8/ KPI_COL0/ PWRON_SET8, 27 PA.7/ RMII0_RXDATA1/ LCD_DATA7/ KPI_ROW3/ PWRON_SET7, 28 PA.6/ RMII0_RXDATA0/ LCD_DATA6/ KPI_ROW2/ PWRON_SET6, 29 PA.5/ RMII0_REFCLK/ LCD_DATA5/ KPI_ROW1/ PWRON_SET5, 30 PA.4/ RMII0_TXEN/ LCD_DATA4/ KPI_ROW0/ PWRON_SET4, 31 PA.3/ RMII0_TXDATA1/ LCD_DATA3/ PWRON_SET3, 32 PA.2/ RMII0_TXDATA0/ LCD_DATA2/ PWRON_SET2, 33 PA.1/ RMII0_MDIO/ LCD_DATA1/ PWRON_SET1, 34 PA.0/ RMII0_MDC/ LCD_DATA0/ PWRON_SET0, 35 ADC6, 36 ADC4, 37 AVSS, 38 AVDD, 39 ADC7, 40 ADC5, 41 VREF, 42 RTC_VDD, 43 SYS_PWREN, 44 SYS_nWAKEUP, 45 X32_IN, 46 X32_OUT, 47 CORE_VDD, 48 PI.3/ VCAP_CLKO/ NAND_ALE/ I2C1_SCL/ EBI_DATA3/ CAN0_RXD/ RTC_TICK, 49 PI.4/ VCAP_PCLK/ NAND_CLE/ I2C1_SDA/ EBI_DATA4/ CAN0_TX, 50 PI.5/ VCAP_HSYNC/ NAND_nWE/ eMMC_CMD/ EBI_DATA5/ SD1_CMD/ UART1_TXD/ SPI1_SS0, 51 PI.6/ VCAP_VSYNC/ NAND_nRE/ eMMC_CLK/ SC1_RST/ EBI_DATA6/ SD1_CLK/ UART1_RXD/ SPI1_CLK, 52 PI.7/ VCAP_FIELD/ NAND_RDY0/ eMMC_DATA3/ SC1_CLK/ EBI_DATA7/ SD1_DAT0/ UART1_RTS/ SPI1_DO, 53 PI.8/ VCAP_DATA0/ NAND_DATA0/ eMMC_DATA0/ SC1_DAT/ EBI_DATA8/ SD1_DAT1/ UART1_CTS/ SPI1_DI, 54 PI.9/ VCAP_DATA1/ NAND_DATA1/ eMMC_DATA1/ SC1_PWR/ EBI_DATA9/ SD1_DAT2/ UART4_TXD, 55 PI.10/ VCAP_DATA2/ NAND_DATA2/ eMMC_DATA2/ SC1_CD/ EBI_DATA10/ SD1_DAT3/ UART4_RXD, 56 PI.11/ VCAP_DATA3/ NAND_DATA3/ SC0_RST/ EBI_DATA11, 57 PI.12/ VCAP_DATA4/ NAND_DATA4/ UART8_TXD/ SC0_CLK/ EBI_DATA12/ SD1_nCD, 58 PI.13/ VCAP_DATA5/ NAND_DATA5/ UART8_RXD/ SC0_DAT/ EBI_DATA13/ SD1_nPWR, 59 PI.14/ VCAP_DATA6/ NAND_DATA6/ UART8_RTS/ SC0_PWR/ EBI_DATA14, 60 PI.15/ VCAP_DATA7/ NAND_DATA7/ UART8_CTS/ SC0_CD/ EBI_DATA15/ CLK_OUT, 61 IO_VDD, 62 PB.2/ UART6_TXD/ PWM0/ TM0_TGL, 63 PB.3/ UART6_RXD/ PWM1/ TM0_CAP, 64 IO_VSS, 65 PB.6/ SPI0_SS0, 66 PB.7/ SPI0_CLK, 67 PB.8/ SPI0_DO, 68 PB.9/ SPI0_DI, 69 PB.10/ UART10_TXD/ SPI0_DATA2/ CAN0_RXD, 70 PB.11/ UART10_RXD/ SPI0_DATA3/ CAN0_TXD, 71 PB.12/ UART10_TXD/ SPI1_SS0, 72 PB.13/ UART10_RXD/ SPI1_CLK, 73 PB.14/ UART10_RTS/ SPI1_DO, 74 PB.15/ UART10_CTS/ SPI1_DI, 75 PJ.3/ JTAG_TDO, 76 PJ.0/ JTAG_TCK, 77 PJ.1/ JTAG_TMS, 78 PJ.2/ JTAG_TDI, 79 PJ.4/ JTAG_nTRST, 80 nRESET/ WDT_nRST, 81 IO_VDD, 82 CORE_VDD, 83 DDR_VDD, 84 DDR_VDD, 85 IO_VDD, 86 PD.0/ SD0_CMD, 87 PD.1/ SD0_CLK, 88 PD.2/ SD0_DAT0, 89 PD.3/ SD0_DAT1, 90 PD.4/ SD0_DAT2, 91 PD.5/ SD0_DAT3, 92 PD.6/ SD0_nCD, 93 PD.7, 94 CORE_VDD, 95 PLL_VSS, 96 PE.1/ UART0_RXD, 97 PE.0/ UART0_TXD, 98 IO_VDD, 99 XT1_IN, 100 XT1_OUT, 101 IO_VSS, 102 PF.9/ RMII0_RXERR, 103 PF.8/ RMII0_CRSDV, 104 PF.7/ RMII0_RXDATA1, 105 PF.6/ RMII0_RXDATA0, 106 PF.5/ RMII0_REFCLK, 107 PF.4/ RMII0_TXEN, 108 PF.3/ RMII0_TXDATA1, 109 PF.2/ RMII0_TXDATA0, 110 PF.1/ RMII0_MDIO, 111 PF.0/ RMII0_MDC, 112 PH.1/ USB_OVRCUR/ INT1, 113 PH.0/ USB0_VBUSVLD/ INT0, 114 PF.10/ USB_PWREN, 115 CORE_VDD, 116 CORE_VDD, 117 USBPLL1_VDD, 118 USB1_DM, 119 USB1_DP, 120 USB1_VDD, 121 USB1_REXT, 122 USBPLL0_VDD, 123 USB0_VSS, 124 USB0_DM, 125 USB0_DP, 126 USB0_VDD, 127 USB0_REXT, 128 IO_VSS

## NX3DV221GM
designator U?
pins: 1 1D+, 2 1D-, 3 2D+, 4 2D-, 5 GND, 6 ~{O}E, 7 D-, 8 D+, 9 S, 10 VCC

## P-MOS-HV
designator U?
footprint SOP8
pins: 1 S1, 2 S2, 3 S3, 4 G, 5 D4, 6 D3, 7 D2, 8 D1
2 alternate drawings of the same symbol

## PC357
designator U?
part A pins: 1, 2
part B pins: 3, 4

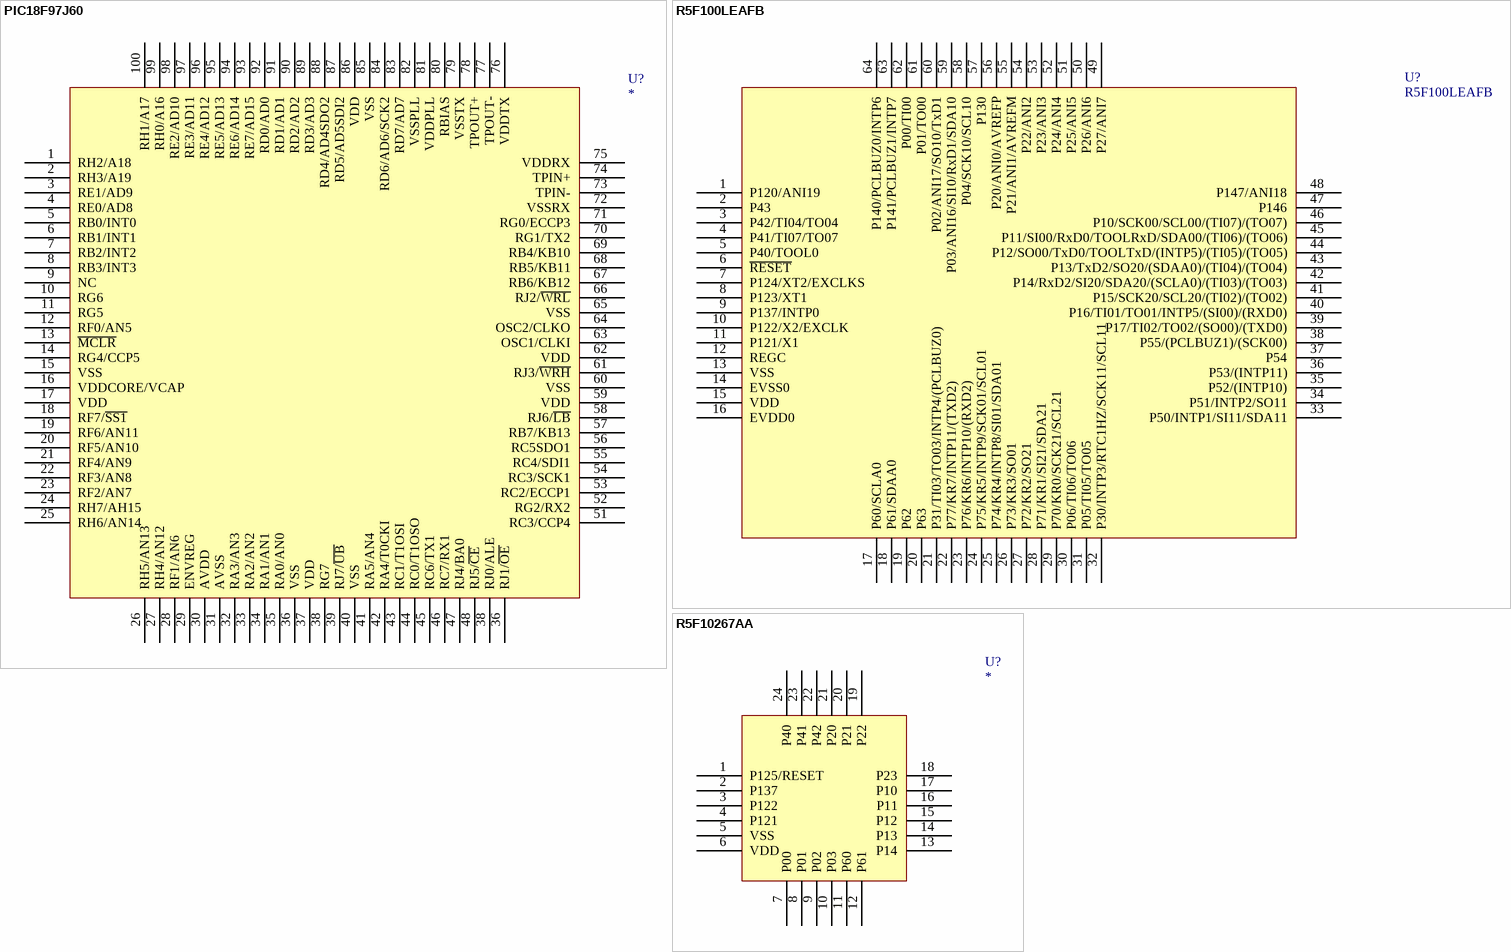
[diagram p7: symbols PIC18F97J60 to R5F10267AA]

## PIC18F97J60
designator U?
footprint TQFP100P
pins: 1 RH2/A18, 2 RH3/A19, 3 RE1/AD9, 4 RE0/AD8, 5 RB0/INT0, 6 RB1/INT1, 7 RB2/INT2, 8 RB3/INT3, 9 NC, 10 RG6, 11 RG5, 12 RF0/AN5, 13 ~{MCLR}, 14 RG4/CCP5, 15 VSS, 16 VDDCORE/VCAP, 17 VDD, 18 RF7/~{SS1}, 19 RF6/AN11, 20 RF5/AN10, 21 RF4/AN9, 22 RF3/AN8, 23 RF2/AN7, 24 RH7/AH15, 25 RH6/AN14, 26 RH5/AN13, 27 RH4/AN12, 28 RF1/AN6, 29 ENVREG, 30 AVDD, 31 AVSS, 32 RA3/AN3, 33 RA2/AN2, 34 RA1/AN1, 35 RA0/AN0, 36 VSS, 36 RJ1/~{OE}, 37 VDD, 38 RJ0/ALE, 38 RG7, 39 RJ7/~{UB}, 40 VSS, 41 RA5/AN4, 42 RA4/T0CKI, 43 RC1/T1OSI, 44 RC0/T1OSO, 45 RC6/TX1, 46 RC7/RX1, 47 RJ4/BA0, 48 RJ5/~{CE}, 51 RC3/CCP4, 52 RG2/RX2, 53 RC2/ECCP1, 54 RC3/SCK1, 55 RC4/SDI1, 56 RC5SDO1, 57 RB7/KB13, 58 RJ6/~{LB}, 59 VDD, 60 VSS, 61 RJ3/~{WRH}, 62 VDD, 63 OSC1/CLKI, 64 OSC2/CLKO, 65 VSS, 66 RJ2/~{WRL}, 67 RB6/KB12, 68 RB5/KB11, 69 RB4/KB10, 70 RG1/TX2, 71 RG0/ECCP3, 72 VSSRX, 73 TPIN-, 74 TPIN+, 75 VDDRX, 76 VDDTX, 77 TPOUT-, 78 TPOUT+, 79 VSSTX, 80 RBIAS, 81 VDDPLL, 82 VSSPLL, 83 RD7/AD7, 84 RD6/AD6/SCK2, 85 VSS, 86 VDD, 87 RD5/AD5SDI2, 88 RD4/AD4SDO2, 89 RD3/AD3, 90 RD2/AD2, 91 RD1/AD1, 92 RD0/AD0, 93 RE7/AD15, 94 RE6/AD14, 95 RE5/AD13, 96 RE4/AD12, 97 RE3/AD11, 98 RE2/AD10, 99 RH0/A16, 100 RH1/A17

## R5F100LEAFB
designator U?
footprint IC128
pins: 1 P120/ANI19, 2 P43, 3 P42/TI04/TO04, 4 P41/TI07/TO07, 5 P40/TOOL0, 6 ~{RESET}, 7 P124/XT2/EXCLKS, 8 P123/XT1, 9 P137/INTP0, 10 P122/X2/EXCLK, 11 P121/X1, 12 REGC, 13 VSS, 14 EVSS0, 15 VDD, 16 EVDD0, 17 P60/SCLA0, 18 P61/SDAA0, 19 P62, 20 P63, 21 P31/TI03/TO03/INTP4/(PCLBUZ0), 22 P77/KR7/INTP11/(TXD2), 23 P76/KR6/INTP10/(RXD2), 24 P75/KR5/INTP9/SCK01/SCL01, 25 P74/KR4/INTP8/SI01/SDA01, 26 P73/KR3/SO01, 27 P72/KR2/SO21, 28 P71/KR1/SI21/SDA21, 29 P70/KR0/SCK21/SCL21, 30 P06/TI06/TO06, 31 P05/TI05/TO05, 32 P30/INTP3/RTC1HZ/SCK11/SCL11, 33 P50/INTP1/SI11/SDA11, 34 P51/INTP2/SO11, 35 P52/(INTP10), 36 P53/(INTP11), 37 P54, 38 P55/(PCLBUZ1)/(SCK00), 39 P17/TI02/TO02/(SO00)/(TXD0), 40 P16/TI01/TO01/INTP5/(SI00)/(RXD0), 41 P15/SCK20/SCL20/(TI02)/(TO02), 42 P14/RxD2/SI20/SDA20/(SCLA0)/(TI03)/(TO03), 43 P13/TxD2/SO20/(SDAA0)/(TI04)/(TO04), 44 P12/SO00/TxD0/TOOLTxD/(INTP5)/(TI05)/(TO05), 45 P11/SI00/RxD0/TOOLRxD/SDA00/(TI06)/(TO06), 46 P10/SCK00/SCL00/(TI07)/(TO07), 47 P146, 48 P147/ANI18, 49 P27/ANI7, 50 P26/ANI6, 51 P25/ANI5, 52 P24/ANI4, 53 P23/ANI3, 54 P22/ANI2, 55 P21/ANI1/AVREFM, 56 P20/ANI0/AVREFP, 57 P130, 58 P04/SCK10/SCL10, 59 P03/ANI16/SI10/RxD1/SDA10, 60 P02/ANI17/SO10/TxD1, 61 P01/TO00, 62 P00/TI00, 63 P141/PCLBUZ1/INTP7, 64 P140/PCLBUZ0/INTP6

## R5F10267AA
designator U?
Connector
footprint QFN32
pins: 1 P125/RESET, 2 P137, 3 P122, 4 P121, 5 VSS, 6 VDD, 7 P00, 8 P01, 9 P02, 10 P03, 11 P60, 12 P61, 13 P14, 14 P13, 15 P12, 16 P11, 17 P10, 18 P23, 19 P22, 20 P21, 21 P20, 22 P42, 23 P41, 24 P40

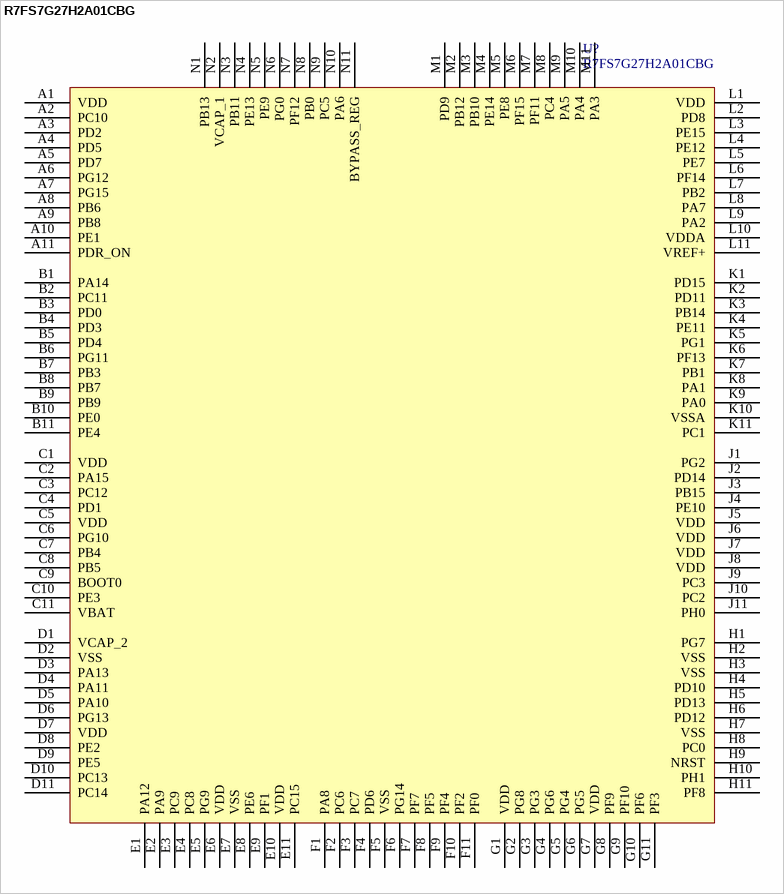
[diagram p8: symbol R7FS7G27H2A01CBG]

## R7FS7G27H2A01CBG
designator U?
footprint TQFP100P
pins: A1 VDD, A2 PC10, A3 PD2, A4 PD5, A5 PD7, A6 PG12, A7 PG15, A8 PB6, A9 PB8, A10 PE1, A11 PDR_ON, B1 PA14, B2 PC11, B3 PD0, B4 PD3, B5 PD4, B6 PG11, B7 PB3, B8 PB7, B9 PB9, B10 PE0, B11 PE4, C1 VDD, C2 PA15, C3 PC12, C4 PD1, C5 VDD, C6 PG10, C7 PB4, C8 PB5, C9 BOOT0, C10 PE3, C11 VBAT, D1 VCAP_2, D2 VSS, D3 PA13, D4 PA11, D5 PA10, D6 PG13, D7 VDD, D8 PE2, D9 PE5, D10 PC13, D11 PC14, E1 PA12, E2 PA9, E3 PC9, E4 PC8, E5 PG9, E6 VDD, E7 VSS, E8 PE6, E9 PF1, E10 VDD, E11 PC15, F1 PA8, F2 PC6, F3 PC7, F4 PD6, F5 VSS, F6 PG14, F7 PF7, F8 PF5, F9 PF4, F10 PF2, F11 PF0, G1 VDD, G2 PG8, G3 PG3, G4 PG6, G5 PG4, G6 PG5, G7 VDD, G8 PF9, G9 PF10, G10 PF6, G11 PF3, H1 PG7, H2 VSS, H3 VSS, H4 PD10, H5 PD13, H6 PD12, H7 VSS, H8 PC0, H9 NRST, H10 PH1, H11 PF8, J1 PG2, J2 PD14, J3 PB15, J4 PE10, J5 VDD, J6 VDD, J7 VDD, J8 VDD, J9 PC3, J10 PC2, J11 PH0, K1 PD15, K2 PD11, K3 PB14, K4 PE11, K5 PG1, K6 PF13, K7 PB1, K8 PA1, K9 PA0, K10 VSSA, K11 PC1, L1 VDD, L2 PD8, L3 PE15, L4 PE12, L5 PE7, L6 PF14, L7 PB2, L8 PA7, L9 PA2, L10 VDDA, L11 VREF+, M1 PD9, M2 PB12, M3 PB10, M4 PE14, M5 PE8, M6 PF15, M7 PF11, M8 PC4, M9 PA5, M10 PA4, M11 PA3, N1 PB13, N2 VCAP_1, N3 PB11, N4 PE13, N5 PE9, N6 PG0, N7 PF12, N8 PB0, N9 PC5, N10 PA6, N11 BYPASS_REG

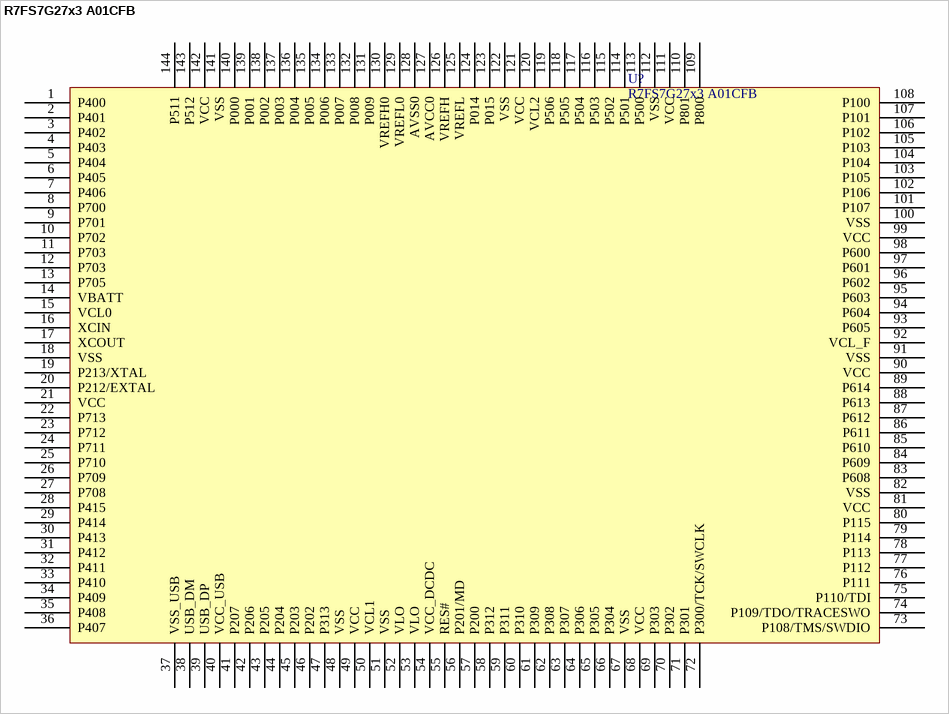
[diagram p9: symbol R7FS7G27x3 A01CFB]

## R7FS7G27x3 A01CFB
designator U?
footprint TQFP100P
pins: 1 P400, 2 P401, 3 P402, 4 P403, 5 P404, 6 P405, 7 P406, 8 P700, 9 P701, 10 P702, 11 P703, 12 P703, 13 P705, 14 VBATT, 15 VCL0, 16 XCIN, 17 XCOUT, 18 VSS, 19 P213/XTAL, 20 P212/EXTAL, 21 VCC, 22 P713, 23 P712, 24 P711, 25 P710, 26 P709, 27 P708, 28 P415, 29 P414, 30 P413, 31 P412, 32 P411, 33 P410, 34 P409, 35 P408, 36 P407, 37 VSS_USB, 38 USB_DM, 39 USB_DP, 40 VCC_USB, 41 P207, 42 P206, 43 P205, 44 P204, 45 P203, 46 P202, 47 P313, 48 VSS, 49 VCC, 50 VCL1, 51 VSS, 52 VLO, 53 VLO, 54 VCC_DCDC, 55 RES#, 56 P201/MD, 57 P200, 58 P312, 59 P311, 60 P310, 61 P309, 62 P308, 63 P307, 64 P306, 65 P305, 66 P304, 67 VSS, 68 VCC, 69 P303, 70 P302, 71 P301, 72 P300/TCK/SWCLK, 73 P108/TMS/SWDIO, 74 P109/TDO/TRACESWO, 75 P110/TDI, 76 P111, 77 P112, 78 P113, 79 P114, 80 P115, 81 VCC, 82 VSS, 83 P608, 84 P609, 85 P610, 86 P611, 87 P612, 88 P613, 89 P614, 90 VCC, 91 VSS, 92 VCL_F, 93 P605, 94 P604, 95 P603, 96 P602, 97 P601, 98 P600, 99 VCC, 100 VSS, 101 P107, 102 P106, 103 P105, 104 P104, 105 P103, 106 P102, 107 P101, 108 P100, 109 P800, 110 P801, 111 VCC, 112 VSS, 113 P500, 114 P501, 115 P502, 116 P503, 117 P504, 118 P505, 119 P506, 120 VCL2, 121 VCC, 122 VSS, 123 P015, 124 P014, 125 VREFL, 126 VREFH, 127 AVCC0, 128 AVSS0, 129 VREFL0, 130 VREFH0, 131 P009, 132 P008, 133 P007, 134 P006, 135 P005, 136 P004, 137 P003, 138 P002, 139 P001, 140 P000, 141 VSS, 142 VCC, 143 P512, 144 P511

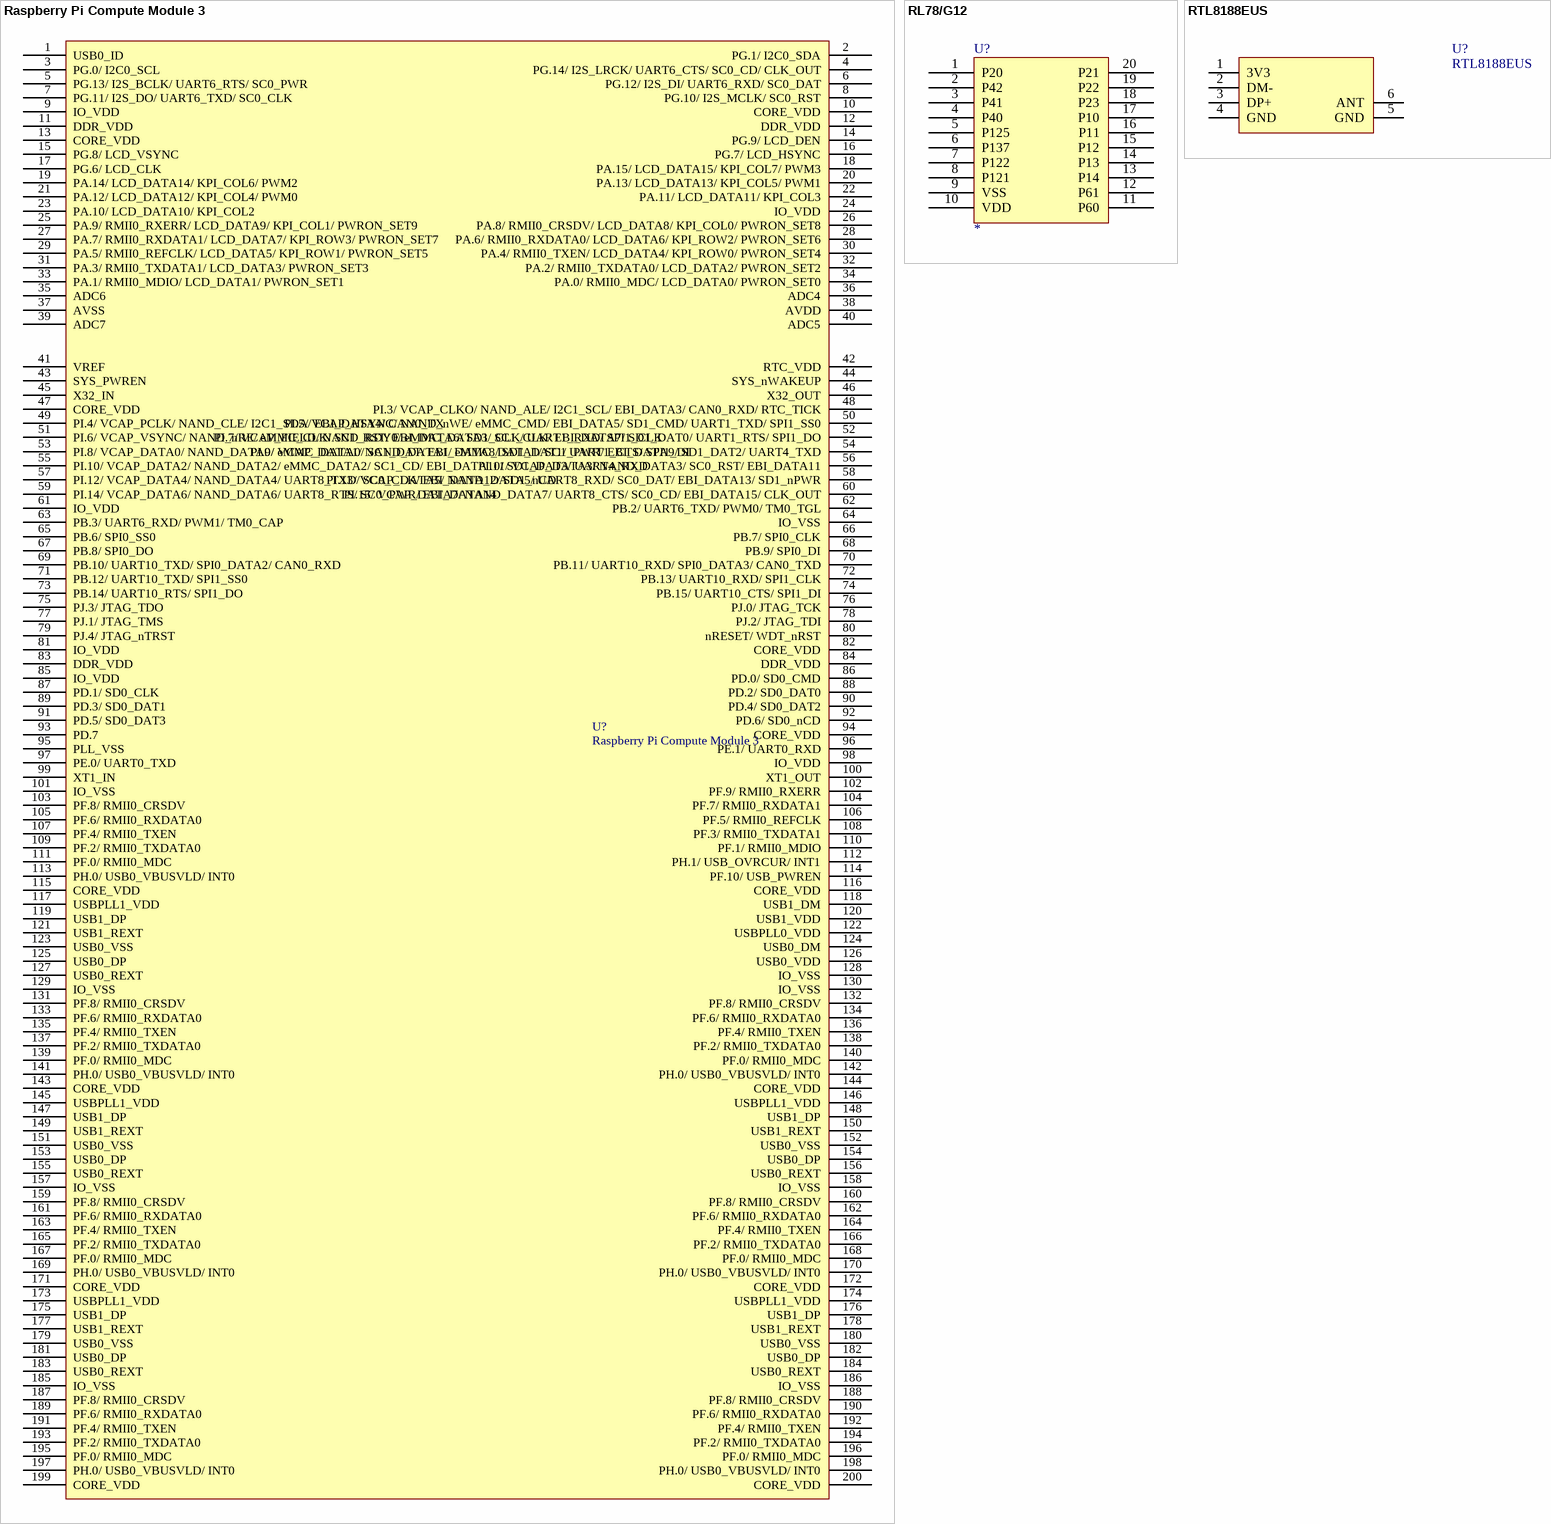
[diagram p10: symbols Raspberry Pi Compute Module 3 to RTL8188EUS]

## Raspberry Pi Compute Module 3
designator U?
pins: 1 USB0_ID, 2 PG.1/ I2C0_SDA, 3 PG.0/ I2C0_SCL, 4 PG.14/ I2S_LRCK/ UART6_CTS/ SC0_CD/ CLK_OUT, 5 PG.13/ I2S_BCLK/ UART6_RTS/ SC0_PWR, 6 PG.12/ I2S_DI/ UART6_RXD/ SC0_DAT, 7 PG.11/ I2S_DO/ UART6_TXD/ SC0_CLK, 8 PG.10/ I2S_MCLK/ SC0_RST, 9 IO_VDD, 10 CORE_VDD, 11 DDR_VDD, 12 DDR_VDD, 13 CORE_VDD, 14 PG.9/ LCD_DEN, 15 PG.8/ LCD_VSYNC, 16 PG.7/ LCD_HSYNC, 17 PG.6/ LCD_CLK, 18 PA.15/ LCD_DATA15/ KPI_COL7/ PWM3, 19 PA.14/ LCD_DATA14/ KPI_COL6/ PWM2, 20 PA.13/ LCD_DATA13/ KPI_COL5/ PWM1, 21 PA.12/ LCD_DATA12/ KPI_COL4/ PWM0, 22 PA.11/ LCD_DATA11/ KPI_COL3, 23 PA.10/ LCD_DATA10/ KPI_COL2, 24 IO_VDD, 25 PA.9/ RMII0_RXERR/ LCD_DATA9/ KPI_COL1/ PWRON_SET9, 26 PA.8/ RMII0_CRSDV/ LCD_DATA8/ KPI_COL0/ PWRON_SET8, 27 PA.7/ RMII0_RXDATA1/ LCD_DATA7/ KPI_ROW3/ PWRON_SET7, 28 PA.6/ RMII0_RXDATA0/ LCD_DATA6/ KPI_ROW2/ PWRON_SET6, 29 PA.5/ RMII0_REFCLK/ LCD_DATA5/ KPI_ROW1/ PWRON_SET5, 30 PA.4/ RMII0_TXEN/ LCD_DATA4/ KPI_ROW0/ PWRON_SET4, 31 PA.3/ RMII0_TXDATA1/ LCD_DATA3/ PWRON_SET3, 32 PA.2/ RMII0_TXDATA0/ LCD_DATA2/ PWRON_SET2, 33 PA.1/ RMII0_MDIO/ LCD_DATA1/ PWRON_SET1, 34 PA.0/ RMII0_MDC/ LCD_DATA0/ PWRON_SET0, 35 ADC6, 36 ADC4, 37 AVSS, 38 AVDD, 39 ADC7, 40 ADC5, 41 VREF, 42 RTC_VDD, 43 SYS_PWREN, 44 SYS_nWAKEUP, 45 X32_IN, 46 X32_OUT, 47 CORE_VDD, 48 PI.3/ VCAP_CLKO/ NAND_ALE/ I2C1_SCL/ EBI_DATA3/ CAN0_RXD/ RTC_TICK, 49 PI.4/ VCAP_PCLK/ NAND_CLE/ I2C1_SDA/ EBI_DATA4/ CAN0_TX, 50 PI.5/ VCAP_HSYNC/ NAND_nWE/ eMMC_CMD/ EBI_DATA5/ SD1_CMD/ UART1_TXD/ SPI1_SS0, 51 PI.6/ VCAP_VSYNC/ NAND_nRE/ eMMC_CLK/ SC1_RST/ EBI_DATA6/ SD1_CLK/ UART1_RXD/ SPI1_CLK, 52 PI.7/ VCAP_FIELD/ NAND_RDY0/ eMMC_DATA3/ SC1_CLK/ EBI_DATA7/ SD1_DAT0/ UART1_RTS/ SPI1_DO, 53 PI.8/ VCAP_DATA0/ NAND_DATA0/ eMMC_DATA0/ SC1_DAT/ EBI_DATA8/ SD1_DAT1/ UART1_CTS/ SPI1_DI, 54 PI.9/ VCAP_DATA1/ NAND_DATA1/ eMMC_DATA1/ SC1_PWR/ EBI_DATA9/ SD1_DAT2/ UART4_TXD, 55 PI.10/ VCAP_DATA2/ NAND_DATA2/ eMMC_DATA2/ SC1_CD/ EBI_DATA10/ SD1_DAT3/ UART4_RXD, 56 PI.11/ VCAP_DATA3/ NAND_DATA3/ SC0_RST/ EBI_DATA11, 57 PI.12/ VCAP_DATA4/ NAND_DATA4/ UART8_TXD/ SC0_CLK/ EBI_DATA12/ SD1_nCD, 58 PI.13/ VCAP_DATA5/ NAND_DATA5/ UART8_RXD/ SC0_DAT/ EBI_DATA13/ SD1_nPWR, 59 PI.14/ VCAP_DATA6/ NAND_DATA6/ UART8_RTS/ SC0_PWR/ EBI_DATA14, 60 PI.15/ VCAP_DATA7/ NAND_DATA7/ UART8_CTS/ SC0_CD/ EBI_DATA15/ CLK_OUT, 61 IO_VDD, 62 PB.2/ UART6_TXD/ PWM0/ TM0_TGL, 63 PB.3/ UART6_RXD/ PWM1/ TM0_CAP, 64 IO_VSS, 65 PB.6/ SPI0_SS0, 66 PB.7/ SPI0_CLK, 67 PB.8/ SPI0_DO, 68 PB.9/ SPI0_DI, 69 PB.10/ UART10_TXD/ SPI0_DATA2/ CAN0_RXD, 70 PB.11/ UART10_RXD/ SPI0_DATA3/ CAN0_TXD, 71 PB.12/ UART10_TXD/ SPI1_SS0, 72 PB.13/ UART10_RXD/ SPI1_CLK, 73 PB.14/ UART10_RTS/ SPI1_DO, 74 PB.15/ UART10_CTS/ SPI1_DI, 75 PJ.3/ JTAG_TDO, 76 PJ.0/ JTAG_TCK, 77 PJ.1/ JTAG_TMS, 78 PJ.2/ JTAG_TDI, 79 PJ.4/ JTAG_nTRST, 80 nRESET/ WDT_nRST, 81 IO_VDD, 82 CORE_VDD, 83 DDR_VDD, 84 DDR_VDD, 85 IO_VDD, 86 PD.0/ SD0_CMD, 87 PD.1/ SD0_CLK, 88 PD.2/ SD0_DAT0, 89 PD.3/ SD0_DAT1, 90 PD.4/ SD0_DAT2, 91 PD.5/ SD0_DAT3, 92 PD.6/ SD0_nCD, 93 PD.7, 94 CORE_VDD, 95 PLL_VSS, 96 PE.1/ UART0_RXD, 97 PE.0/ UART0_TXD, 98 IO_VDD, 99 XT1_IN, 100 XT1_OUT, 101 IO_VSS, 102 PF.9/ RMII0_RXERR, 103 PF.8/ RMII0_CRSDV, 104 PF.7/ RMII0_RXDATA1, 105 PF.6/ RMII0_RXDATA0, 106 PF.5/ RMII0_REFCLK, 107 PF.4/ RMII0_TXEN, 108 PF.3/ RMII0_TXDATA1, 109 PF.2/ RMII0_TXDATA0, 110 PF.1/ RMII0_MDIO, 111 PF.0/ RMII0_MDC, 112 PH.1/ USB_OVRCUR/ INT1, 113 PH.0/ USB0_VBUSVLD/ INT0, 114 PF.10/ USB_PWREN, 115 CORE_VDD, 116 CORE_VDD, 117 USBPLL1_VDD, 118 USB1_DM, 119 USB1_DP, 120 USB1_VDD, 121 USB1_REXT, 122 USBPLL0_VDD, 123 USB0_VSS, 124 USB0_DM, 125 USB0_DP, 126 USB0_VDD, 127 USB0_REXT, 128 IO_VSS, 129 IO_VSS, 130 IO_VSS, 131 PF.8/ RMII0_CRSDV, 132 PF.8/ RMII0_CRSDV, 133 PF.6/ RMII0_RXDATA0, 134 PF.6/ RMII0_RXDATA0, 135 PF.4/ RMII0_TXEN, 136 PF.4/ RMII0_TXEN, 137 PF.2/ RMII0_TXDATA0, 138 PF.2/ RMII0_TXDATA0, 139 PF.0/ RMII0_MDC, 140 PF.0/ RMII0_MDC, 141 PH.0/ USB0_VBUSVLD/ INT0, 142 PH.0/ USB0_VBUSVLD/ INT0, 143 CORE_VDD, 144 CORE_VDD, 145 USBPLL1_VDD, 146 USBPLL1_VDD, 147 USB1_DP, 148 USB1_DP, 149 USB1_REXT, 150 USB1_REXT, 151 USB0_VSS, 152 USB0_VSS, 153 USB0_DP, 154 USB0_DP, 155 USB0_REXT, 156 USB0_REXT, 157 IO_VSS, 158 IO_VSS, 159 PF.8/ RMII0_CRSDV, 160 PF.8/ RMII0_CRSDV, 161 PF.6/ RMII0_RXDATA0, 162 PF.6/ RMII0_RXDATA0, 163 PF.4/ RMII0_TXEN, 164 PF.4/ RMII0_TXEN, 165 PF.2/ RMII0_TXDATA0, 166 PF.2/ RMII0_TXDATA0, 167 PF.0/ RMII0_MDC, 168 PF.0/ RMII0_MDC, 169 PH.0/ USB0_VBUSVLD/ INT0, 170 PH.0/ USB0_VBUSVLD/ INT0, 171 CORE_VDD, 172 CORE_VDD, 173 USBPLL1_VDD, 174 USBPLL1_VDD, 175 USB1_DP, 176 USB1_DP, 177 USB1_REXT, 178 USB1_REXT, 179 USB0_VSS, 180 USB0_VSS, 181 USB0_DP, 182 USB0_DP, 183 USB0_REXT, 184 USB0_REXT, 185 IO_VSS, 186 IO_VSS, 187 PF.8/ RMII0_CRSDV, 188 PF.8/ RMII0_CRSDV, 189 PF.6/ RMII0_RXDATA0, 190 PF.6/ RMII0_RXDATA0, 191 PF.4/ RMII0_TXEN, 192 PF.4/ RMII0_TXEN, 193 PF.2/ RMII0_TXDATA0, 194 PF.2/ RMII0_TXDATA0, 195 PF.0/ RMII0_MDC, 196 PF.0/ RMII0_MDC, 197 PH.0/ USB0_VBUSVLD/ INT0, 198 PH.0/ USB0_VBUSVLD/ INT0, 199 CORE_VDD, 200 CORE_VDD

## RL78/G12
designator U?
footprint TSSOP20
pins: 1 P20, 2 P42, 3 P41, 4 P40, 5 P125, 6 P137, 7 P122, 8 P121, 9 VSS, 10 VDD, 11 P60, 12 P61, 13 P14, 14 P13, 15 P12, 16 P11, 17 P10, 18 P23, 19 P22, 20 P21

## RTL8188EUS
designator U?
footprint QFN-20
pins: 1 3V3, 2 DM-, 3 DP+, 4 GND, 5 GND, 6 ANT

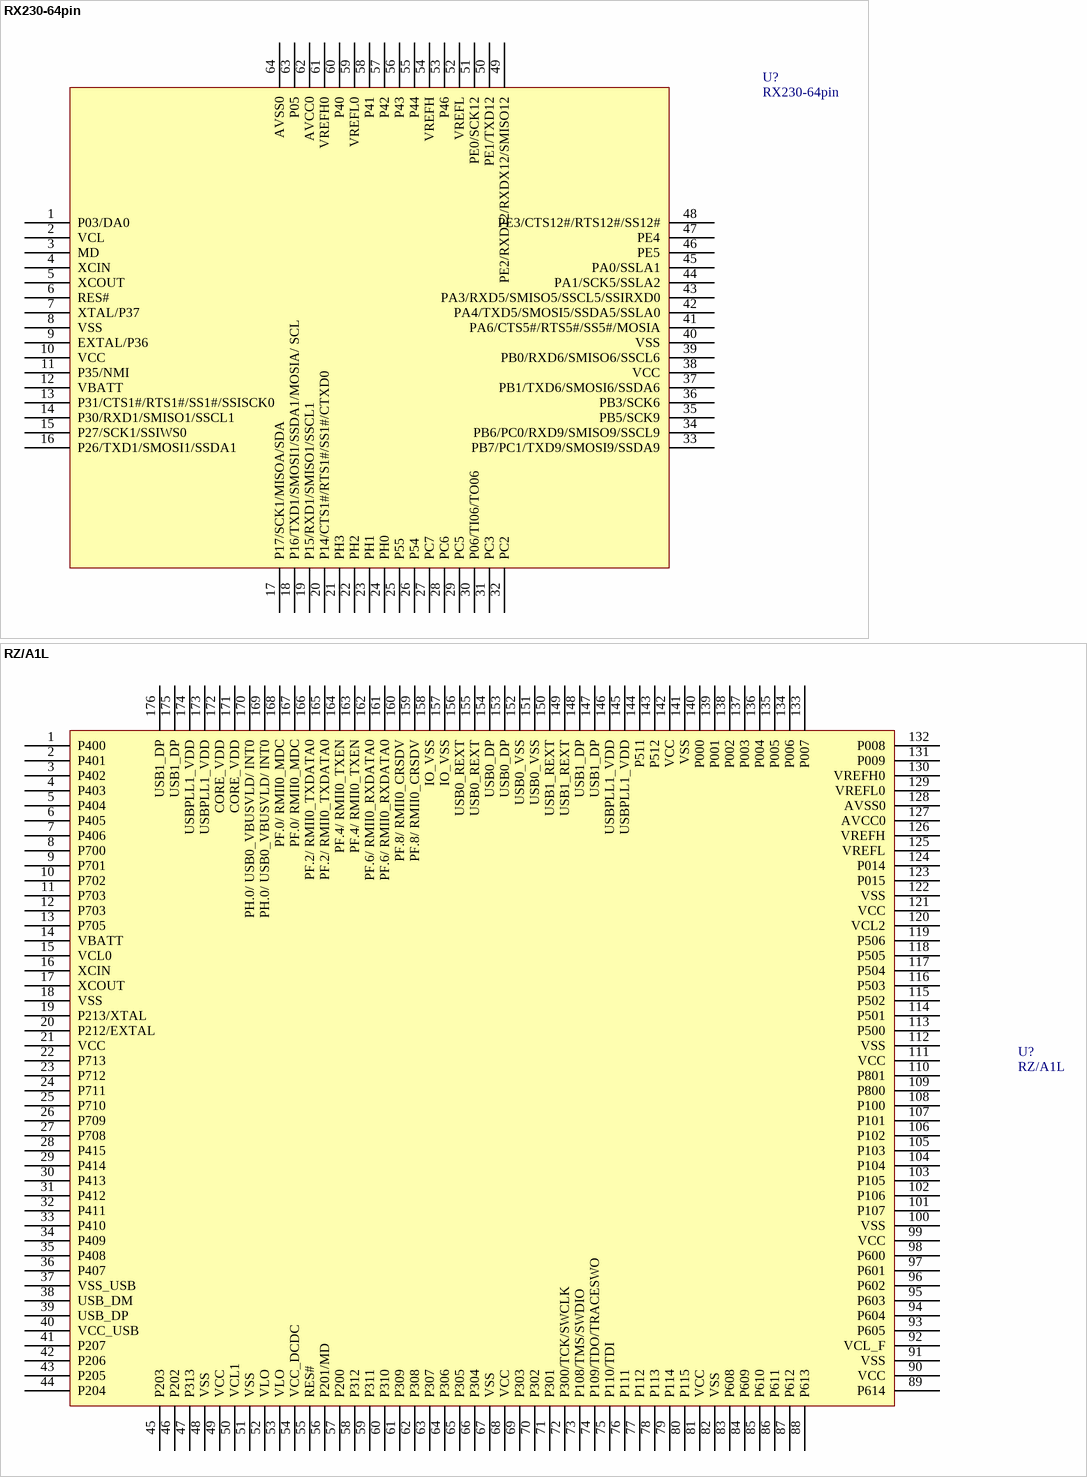
[diagram p11: symbols RX230-64pin to RZ/A1L]

## RX230-64pin
designator U?
footprint IC128
pins: 1 P03/DA0, 2 VCL, 3 MD, 4 XCIN, 5 XCOUT, 6 RES#, 7 XTAL/P37, 8 VSS, 9 EXTAL/P36, 10 VCC, 11 P35/NMI, 12 VBATT, 13 P31/CTS1#/RTS1#/SS1#/SSISCK0, 14 P30/RXD1/SMISO1/SSCL1, 15 P27/SCK1/SSIWS0, 16 P26/TXD1/SMOSI1/SSDA1, 17 P17/SCK1/MISOA/SDA, 18 P16/TXD1/SMOSI1/SSDA1/MOSIA/ SCL, 19 P15/RXD1/SMISO1/SSCL1, 20 P14/CTS1#/RTS1#/SS1#/CTXD0, 21 PH3, 22 PH2, 23 PH1, 24 PH0, 25 P55, 26 P54, 27 PC7, 28 PC6, 29 PC5, 30 P06/TI06/TO06, 31 PC3, 32 PC2, 33 PB7/PC1/TXD9/SMOSI9/SSDA9, 34 PB6/PC0/RXD9/SMISO9/SSCL9, 35 PB5/SCK9, 36 PB3/SCK6, 37 PB1/TXD6/SMOSI6/SSDA6, 38 VCC, 39 PB0/RXD6/SMISO6/SSCL6, 40 VSS, 41 PA6/CTS5#/RTS5#/SS5#/MOSIA, 42 PA4/TXD5/SMOSI5/SSDA5/SSLA0, 43 PA3/RXD5/SMISO5/SSCL5/SSIRXD0, 44 PA1/SCK5/SSLA2, 45 PA0/SSLA1, 46 PE5, 47 PE4, 48 PE3/CTS12#/RTS12#/SS12#, 49 PE2/RXD12/RXDX12/SMISO12, 50 PE1/TXD12, 51 PE0/SCK12, 52 VREFL, 53 P46, 54 VREFH, 55 P44, 56 P43, 57 P42, 58 P41, 59 VREFL0, 60 P40, 61 VREFH0, 62 AVCC0, 63 P05, 64 AVSS0

## RZ/A1L
designator U?
footprint LQFP176-26MM-0.5mm
pins: 1 P400, 2 P401, 3 P402, 4 P403, 5 P404, 6 P405, 7 P406, 8 P700, 9 P701, 10 P702, 11 P703, 12 P703, 13 P705, 14 VBATT, 15 VCL0, 16 XCIN, 17 XCOUT, 18 VSS, 19 P213/XTAL, 20 P212/EXTAL, 21 VCC, 22 P713, 23 P712, 24 P711, 25 P710, 26 P709, 27 P708, 28 P415, 29 P414, 30 P413, 31 P412, 32 P411, 33 P410, 34 P409, 35 P408, 36 P407, 37 VSS_USB, 38 USB_DM, 39 USB_DP, 40 VCC_USB, 41 P207, 42 P206, 43 P205, 44 P204, 45 P203, 46 P202, 47 P313, 48 VSS, 49 VCC, 50 VCL1, 51 VSS, 52 VLO, 53 VLO, 54 VCC_DCDC, 55 RES#, 56 P201/MD, 57 P200, 58 P312, 59 P311, 60 P310, 61 P309, 62 P308, 63 P307, 64 P306, 65 P305, 66 P304, 67 VSS, 68 VCC, 69 P303, 70 P302, 71 P301, 72 P300/TCK/SWCLK, 73 P108/TMS/SWDIO, 74 P109/TDO/TRACESWO, 75 P110/TDI, 76 P111, 77 P112, 78 P113, 79 P114, 80 P115, 81 VCC, 82 VSS, 83 P608, 84 P609, 85 P610, 86 P611, 87 P612, 88 P613, 89 P614, 90 VCC, 91 VSS, 92 VCL_F, 93 P605, 94 P604, 95 P603, 96 P602, 97 P601, 98 P600, 99 VCC, 100 VSS, 101 P107, 102 P106, 103 P105, 104 P104, 105 P103, 106 P102, 107 P101, 108 P100, 109 P800, 110 P801, 111 VCC, 112 VSS, 113 P500, 114 P501, 115 P502, 116 P503, 117 P504, 118 P505, 119 P506, 120 VCL2, 121 VCC, 122 VSS, 123 P015, 124 P014, 125 VREFL, 126 VREFH, 127 AVCC0, 128 AVSS0, 129 VREFL0, 130 VREFH0, 131 P009, 132 P008, 133 P007, 134 P006, 135 P005, 136 P004, 137 P003, 138 P002, 139 P001, 140 P000, 141 VSS, 142 VCC, 143 P512, 144 P511, 145 USBPLL1_VDD, 146 USBPLL1_VDD, 147 USB1_DP, 148 USB1_DP, 149 USB1_REXT, 150 USB1_REXT, 151 USB0_VSS, 152 USB0_VSS, 153 USB0_DP, 154 USB0_DP, 155 USB0_REXT, 156 USB0_REXT, 157 IO_VSS, 158 IO_VSS, 159 PF.8/ RMII0_CRSDV, 160 PF.8/ RMII0_CRSDV, 161 PF.6/ RMII0_RXDATA0, 162 PF.6/ RMII0_RXDATA0, 163 PF.4/ RMII0_TXEN, 164 PF.4/ RMII0_TXEN, 165 PF.2/ RMII0_TXDATA0, 166 PF.2/ RMII0_TXDATA0, 167 PF.0/ RMII0_MDC, 168 PF.0/ RMII0_MDC, 169 PH.0/ USB0_VBUSVLD/ INT0, 170 PH.0/ USB0_VBUSVLD/ INT0, 171 CORE_VDD, 172 CORE_VDD, 173 USBPLL1_VDD, 174 USBPLL1_VDD, 175 USB1_DP, 176 USB1_DP

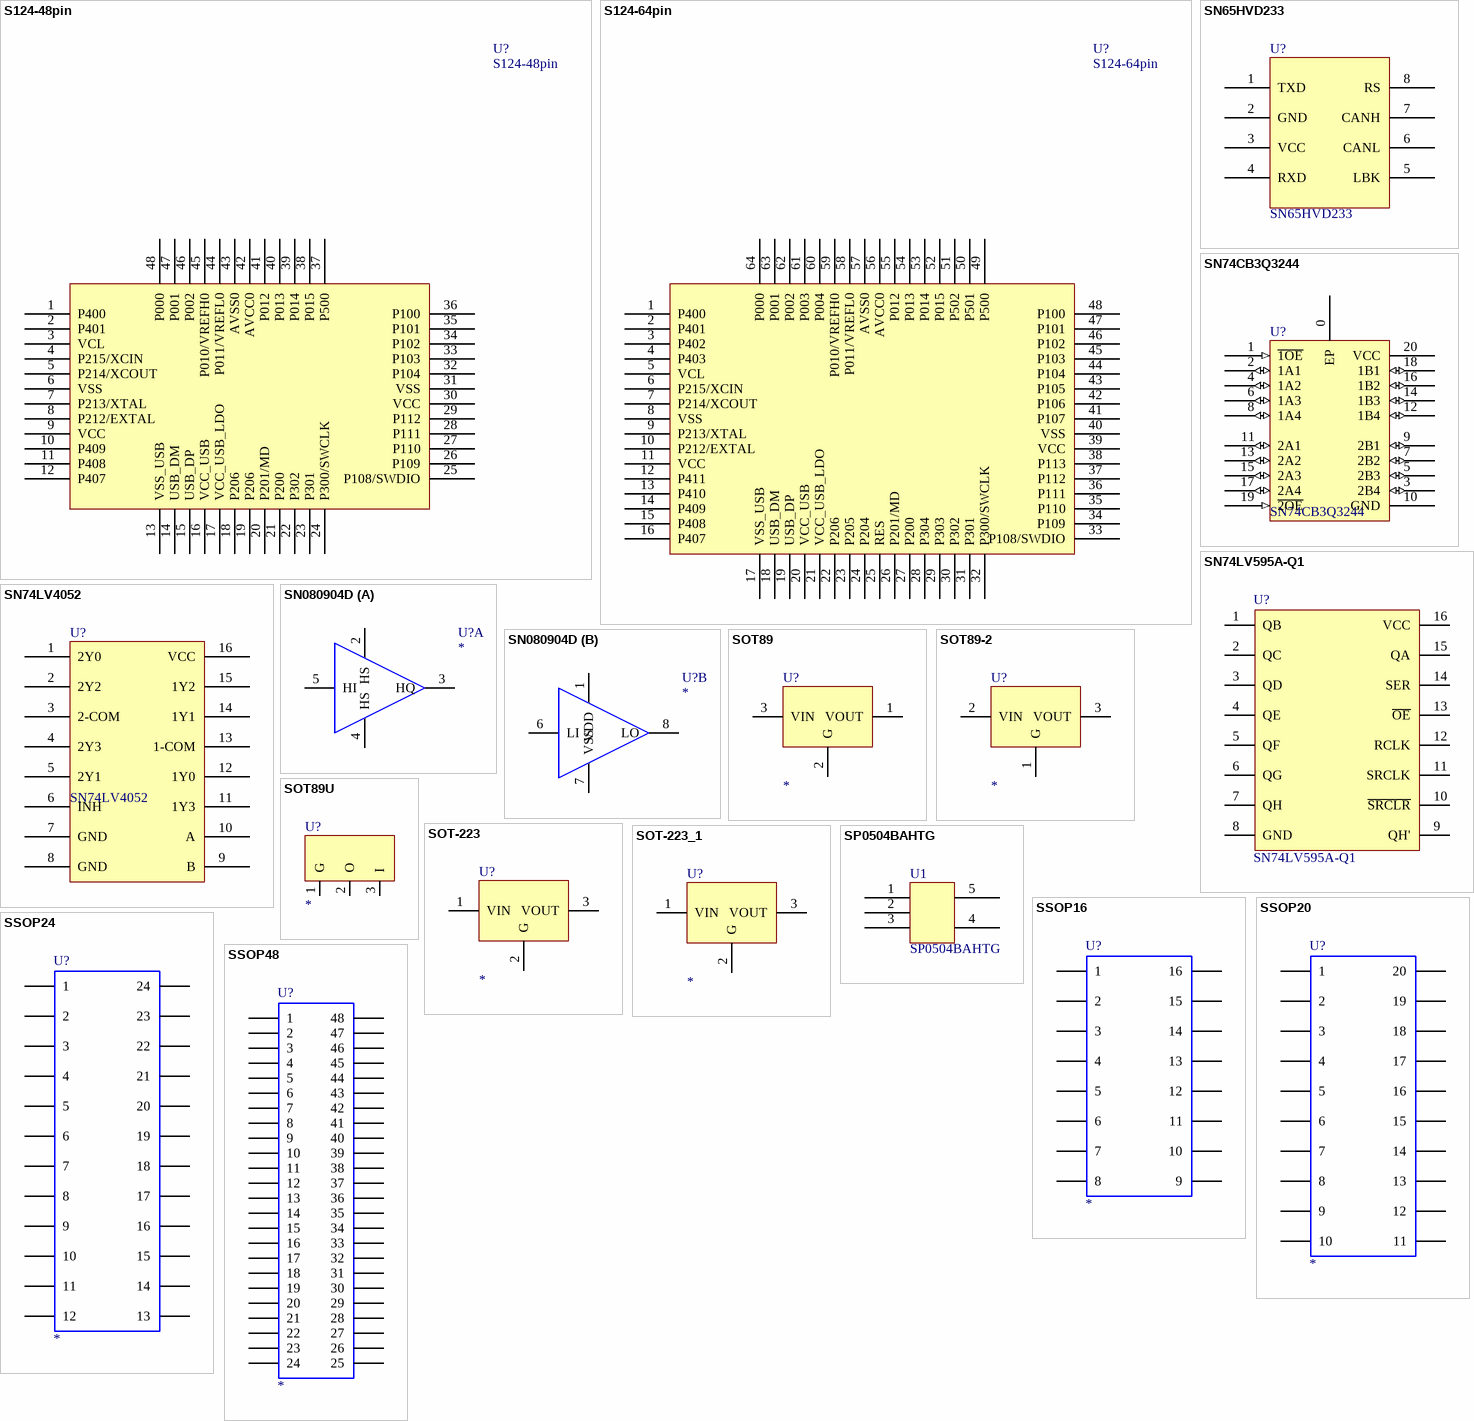
[diagram p12: symbols S124-48pin to SSOP48]

## S124-48pin
designator U?
footprint IC128
pins: 1 P400, 2 P401, 3 VCL, 4 P215/XCIN, 5 P214/XCOUT, 6 VSS, 7 P213/XTAL, 8 P212/EXTAL, 9 VCC, 10 P409, 11 P408, 12 P407, 13 VSS_USB, 14 USB_DM, 15 USB_DP, 16 VCC_USB, 17 VCC_USB_LDO, 18 P206, 19 P206, 20 P201/MD, 21 P200, 22 P302, 23 P301, 24 P300/SWCLK, 25 P108/SWDIO, 26 P109, 27 P110, 28 P111, 29 P112, 30 VCC, 31 VSS, 32 P104, 33 P103, 34 P102, 35 P101, 36 P100, 37 P500, 38 P015, 39 P014, 40 P013, 41 P012, 42 AVCC0, 43 AVSS0, 44 P011/VREFL0, 45 P010/VREFH0, 46 P002, 47 P001, 48 P000

## S124-64pin
designator U?
footprint IC128
pins: 1 P400, 2 P401, 3 P402, 4 P403, 5 VCL, 6 P215/XCIN, 7 P214/XCOUT, 8 VSS, 9 P213/XTAL, 10 P212/EXTAL, 11 VCC, 12 P411, 13 P410, 14 P409, 15 P408, 16 P407, 17 VSS_USB, 18 USB_DM, 19 USB_DP, 20 VCC_USB, 21 VCC_USB_LDO, 22 P206, 23 P205, 24 P204, 25 RES, 26 P201/MD, 27 P200, 28 P304, 29 P303, 30 P302, 31 P301, 32 P300/SWCLK, 33 P108/SWDIO, 34 P109, 35 P110, 36 P111, 37 P112, 38 P113, 39 VCC, 40 VSS, 41 P107, 42 P106, 43 P105, 44 P104, 45 P103, 46 P102, 47 P101, 48 P100, 49 P500, 50 P501, 51 P502, 52 P015, 53 P014, 54 P013, 55 P012, 56 AVCC0, 57 AVSS0, 58 P011/VREFL0, 59 P010/VREFH0, 60 P004, 61 P003, 62 P002, 63 P001, 64 P000

## SN65HVD233
designator U?
pins: 1 TXD, 2 GND, 3 VCC, 4 RXD, 5 LBK, 6 CANL, 7 CANH, 8 RS

## SN74CB3Q3244
designator U?
pins: 0 EP, 1 ~{1OE} (in), 2 1A1 (io), 3 2B4 (io), 4 1A2 (io), 5 2B3 (io), 6 1A3 (io), 7 2B2 (io), 8 1A4 (io), 9 2B1 (io), 10 GND, 11 2A1 (io), 12 1B4 (io), 13 2A2 (io), 14 1B3 (io), 15 2A3 (io), 16 1B2 (io), 17 2A4 (io), 18 1B1 (io), 19 ~{2OE} (in), 20 VCC

## SN74LV595A-Q1
designator U?
footprint TSSOP16-0.65MM
footprint SEN16
footprint SEN16A
pins: 1 QB, 2 QC, 3 QD, 4 QE, 5 QF, 6 QG, 7 QH, 8 GND, 9 QH', 10 ~{SRCLR}, 11 SRCLK, 12 RCLK, 13 ~{OE}, 14 SER, 15 QA, 16 VCC

## SN74LV4052
designator U?
footprint 25LC256
pins: 1 2Y0, 2 2Y2, 3 2-COM, 4 2Y3, 5 2Y1, 6 INH, 7 GND, 8 GND, 9 B, 10 A, 11 1Y3, 12 1Y0, 13 1-COM, 14 1Y1, 15 1Y2, 16 VCC

## SN080904D
designator U?
footprint SOP8
part A pins: 2 HS, 3 HQ, 4 HS, 5 HI
part B pins: 1 VDD, 6 LI, 7 VSS, 8 LO

## SOT89
designator U?
Text Field1: 20; Text Field2: 10
footprint SMDQ
pins: 1 VOUT, 2 G, 3 VIN

## SOT89-2
designator U?
Text Field1: 20; Text Field2: 10
footprint SOT-89
footprint SOT-23
pins: 1 G, 2 VIN, 3 VOUT

## SOT89U
designator U?
Text Field1: 20; Text Field2: 10
footprint SOT89
footprint SOT223
footprint DPAK
pins: 1 G, 2 O, 3 I

## SOT-223
designator U?
Text Field1: 20; Text Field2: 10
footprint SOT-223
pins: 1 VIN, 2 G, 3 VOUT

## SOT-223_1
designator U?
Text Field1: 20; Text Field2: 10
footprint SOT-223
pins: 1 VIN, 2 G, 3 VOUT

## SP0504BAHTG
designator U1
footprint SOT-23-5
pins: 1, 2, 3, 4, 5
2 alternate drawings of the same symbol

## SSOP16
designator U?
footprint SSOP16
pins: 1, 2, 3, 4, 5, 6, 7, 8, 9, 10, 11, 12, 13, 14, 15, 16

## SSOP20
designator U?
footprint SSOP20
pins: 1, 2, 3, 4, 5, 6, 7, 8, 9, 10, 11, 12, 13, 14, 15, 16, 17, 18, 19, 20

## SSOP24
designator U?
footprint SSOP24
pins: 1, 2, 3, 4, 5, 6, 7, 8, 9, 10, 11, 12, 13, 14, 15, 16, 17, 18, 19, 20, 21, 22, 23, 24

## SSOP48
designator U?
footprint SSOP48
pins: 1, 2, 3, 4, 5, 6, 7, 8, 9, 10, 11, 12, 13, 14, 15, 16, 17, 18, 19, 20, 21, 22, 23, 24, 25, 26, 27, 28, 29, 30, 31, 32, 33, 34, 35, 36, 37, 38, 39, 40, 41, 42, 43, 44, 45, 46, 47, 48

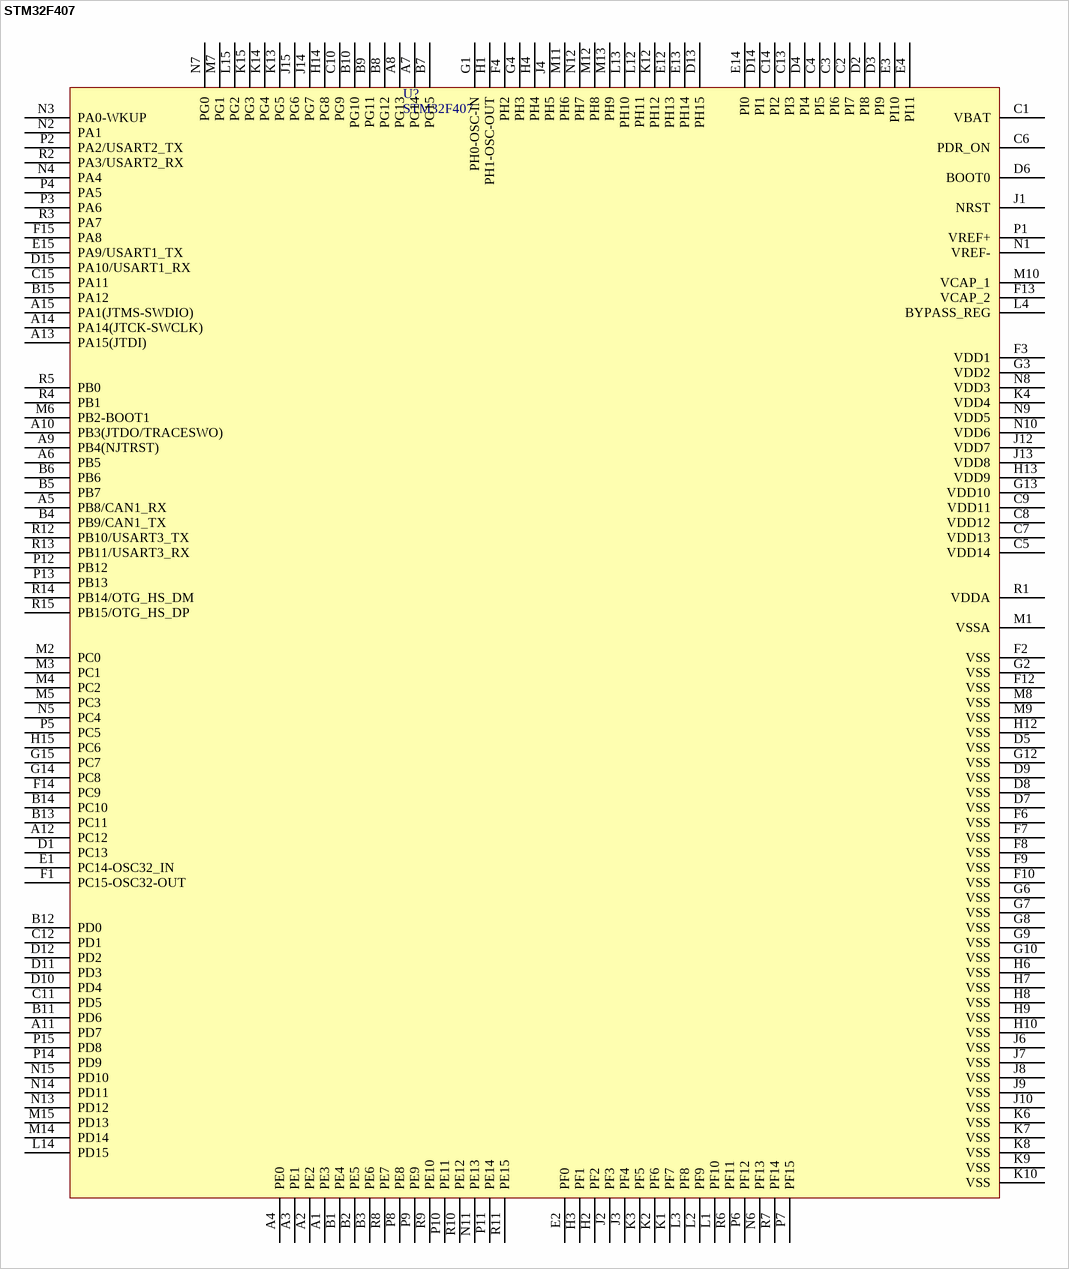
[diagram p13: symbol STM32F407]

## STM32F407
designator U?
pins: A1 PE3, A2 PE2, A3 PE1, A4 PE0, A5 PB8/CAN1_RX, A6 PB5, A7 PG14, A8 PG13, A9 PB4(NJTRST), A10 PB3(JTDO/TRACESWO), A11 PD7, A12 PC12, A13 PA15(JTDI), A14 PA14(JTCK-SWCLK), A15 PA1(JTMS-SWDIO), B1 PE4, B2 PE5, B3 PE6, B4 PB9/CAN1_TX, B5 PB7, B6 PB6, B7 PG15, B8 PG12, B9 PG11, B10 PG10, B11 PD6, B12 PD0, B13 PC11, B14 PC10, B15 PA12, C1 VBAT, C2 PI7, C3 PI6, C4 PI5, C5 VDD14, C6 PDR_ON, C7 VDD13, C8 VDD12, C9 VDD11, C10 PG9, C11 PD5, C12 PD1, C13 PI3, C14 PI2, C15 PA11, D1 PC13, D2 PI8, D3 PI9, D4 PI4, D5 VSS, D6 BOOT0, D7 VSS, D8 VSS, D9 VSS, D10 PD4, D11 PD3, D12 PD2, D13 PH15, D14 PI1, D15 PA10/USART1_RX, E1 PC14-OSC32_IN, E2 PF0, E3 PI10, E4 PI11, E12 PH13, E13 PH14, E14 PI0, E15 PA9/USART1_TX, F1 PC15-OSC32-OUT, F2 VSS, F3 VDD1, F4 PH2, F6 VSS, F7 VSS, F8 VSS, F9 VSS, F10 VSS, F12 VSS, F13 VCAP_2, F14 PC9, F15 PA8, G1 PH0-OSC-IN, G2 VSS, G3 VDD2, G4 PH3, G6 VSS, G7 VSS, G8 VSS, G9 VSS, G10 VSS, G12 VSS, G13 VDD10, G14 PC8, G15 PC7, H1 PH1-OSC-OUT, H2 PF2, H3 PF1, H4 PH4, H6 VSS, H7 VSS, H8 VSS, H9 VSS, H10 VSS, H12 VSS, H13 VDD9, H14 PG8, H15 PC6, J1 NRST, J2 PF3, J3 PF4, J4 PH5, J6 VSS, J7 VSS, J8 VSS, J9 VSS, J10 VSS, J12 VDD7, J13 VDD8, J14 PG7, J15 PG6, K1 PF7, K2 PF6, K3 PF5, K4 VDD4, K6 VSS, K7 VSS, K8 VSS, K9 VSS, K10 VSS, K12 PH12, K13 PG5, K14 PG4, K15 PG3, L1 PF10, L2 PF9, L3 PF8, L4 BYPASS_REG, L12 PH11, L13 PH10, L14 PD15, L15 PG2, M1 VSSA, M2 PC0, M3 PC1, M4 PC2, M5 PC3, M6 PB2-BOOT1, M7 PG1, M8 VSS, M9 VSS, M10 VCAP_1, M11 PH6, M12 PH8, M13 PH9, M14 PD14, M15 PD13, N1 VREF-, N2 PA1, N3 PA0-WKUP, N4 PA4, N5 PC4, N6 PF13, N7 PG0, N8 VDD3, N9 VDD5, N10 VDD6, N11 PE13, N12 PH7, N13 PD12, N14 PD11, N15 PD10, P1 VREF+, P2 PA2/USART2_TX, P3 PA6, P4 PA5, P5 PC5, P6 PF12, P7 PF15, P8 PE8, P9 PE9, P10 PE11, P11 PE14, P12 PB12, P13 PB13, P14 PD9, P15 PD8, R1 VDDA, R2 PA3/USART2_RX, R3 PA7, R4 PB1, R5 PB0, R6 PF11, R7 PF14, R8 PE7, R9 PE10, R10 PE12, R11 PE15, R12 PB10/USART3_TX, R13 PB11/USART3_RX, R14 PB14/OTG_HS_DM, R15 PB15/OTG_HS_DP

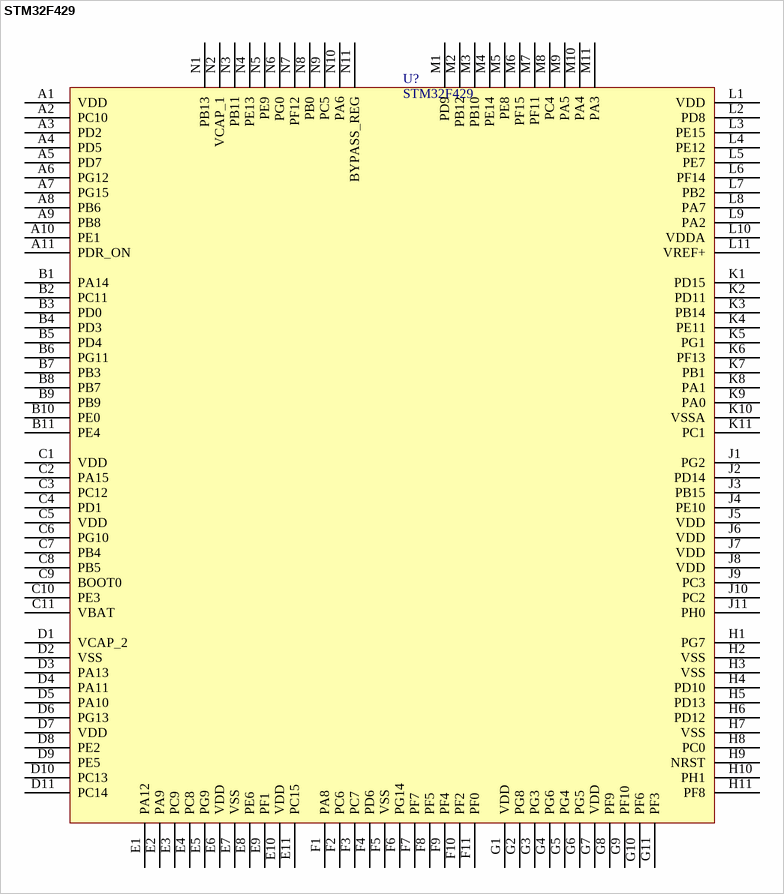
[diagram p14: symbol STM32F429]

## STM32F429
designator U?
pins: A1 VDD, A2 PC10, A3 PD2, A4 PD5, A5 PD7, A6 PG12, A7 PG15, A8 PB6, A9 PB8, A10 PE1, A11 PDR_ON, B1 PA14, B2 PC11, B3 PD0, B4 PD3, B5 PD4, B6 PG11, B7 PB3, B8 PB7, B9 PB9, B10 PE0, B11 PE4, C1 VDD, C2 PA15, C3 PC12, C4 PD1, C5 VDD, C6 PG10, C7 PB4, C8 PB5, C9 BOOT0, C10 PE3, C11 VBAT, D1 VCAP_2, D2 VSS, D3 PA13, D4 PA11, D5 PA10, D6 PG13, D7 VDD, D8 PE2, D9 PE5, D10 PC13, D11 PC14, E1 PA12, E2 PA9, E3 PC9, E4 PC8, E5 PG9, E6 VDD, E7 VSS, E8 PE6, E9 PF1, E10 VDD, E11 PC15, F1 PA8, F2 PC6, F3 PC7, F4 PD6, F5 VSS, F6 PG14, F7 PF7, F8 PF5, F9 PF4, F10 PF2, F11 PF0, G1 VDD, G2 PG8, G3 PG3, G4 PG6, G5 PG4, G6 PG5, G7 VDD, G8 PF9, G9 PF10, G10 PF6, G11 PF3, H1 PG7, H2 VSS, H3 VSS, H4 PD10, H5 PD13, H6 PD12, H7 VSS, H8 PC0, H9 NRST, H10 PH1, H11 PF8, J1 PG2, J2 PD14, J3 PB15, J4 PE10, J5 VDD, J6 VDD, J7 VDD, J8 VDD, J9 PC3, J10 PC2, J11 PH0, K1 PD15, K2 PD11, K3 PB14, K4 PE11, K5 PG1, K6 PF13, K7 PB1, K8 PA1, K9 PA0, K10 VSSA, K11 PC1, L1 VDD, L2 PD8, L3 PE15, L4 PE12, L5 PE7, L6 PF14, L7 PB2, L8 PA7, L9 PA2, L10 VDDA, L11 VREF+, M1 PD9, M2 PB12, M3 PB10, M4 PE14, M5 PE8, M6 PF15, M7 PF11, M8 PC4, M9 PA5, M10 PA4, M11 PA3, N1 PB13, N2 VCAP_1, N3 PB11, N4 PE13, N5 PE9, N6 PG0, N7 PF12, N8 PB0, N9 PC5, N10 PA6, N11 BYPASS_REG

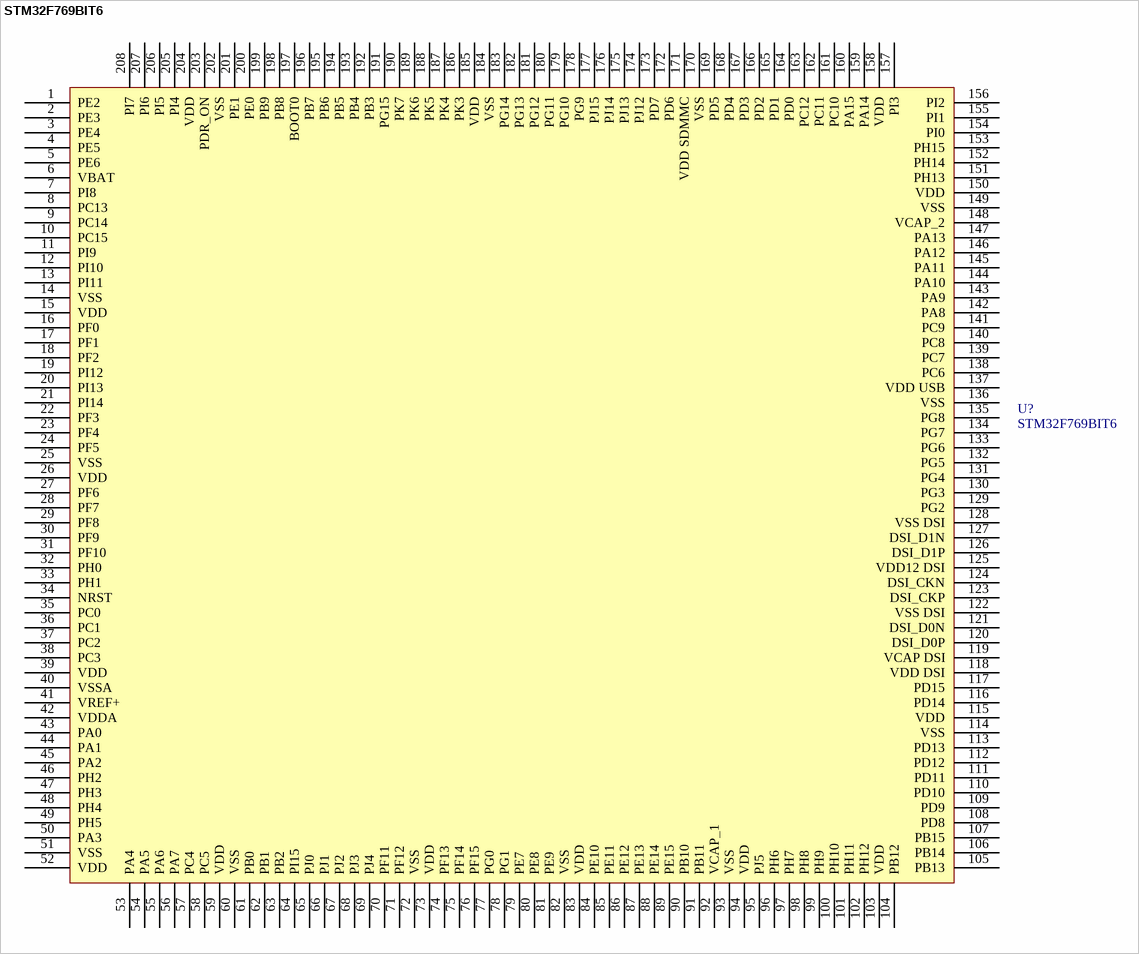
[diagram p15: symbol STM32F769BIT6]

## STM32F769BIT6
designator U?
footprint LQFP176-26MM-0.5mm
pins: 1 PE2, 2 PE3, 3 PE4, 4 PE5, 5 PE6, 6 VBAT, 7 PI8, 8 PC13, 9 PC14, 10 PC15, 11 PI9, 12 PI10, 13 PI11, 14 VSS, 15 VDD, 16 PF0, 17 PF1, 18 PF2, 19 PI12, 20 PI13, 21 PI14, 22 PF3, 23 PF4, 24 PF5, 25 VSS, 26 VDD, 27 PF6, 28 PF7, 29 PF8, 30 PF9, 31 PF10, 32 PH0, 33 PH1, 34 NRST, 35 PC0, 36 PC1, 37 PC2, 38 PC3, 39 VDD, 40 VSSA, 41 VREF+, 42 VDDA, 43 PA0, 44 PA1, 45 PA2, 46 PH2, 47 PH3, 48 PH4, 49 PH5, 50 PA3, 51 VSS, 52 VDD, 53 PA4, 54 PA5, 55 PA6, 56 PA7, 57 PC4, 58 PC5, 59 VDD, 60 VSS, 61 PB0, 62 PB1, 63 PB2, 64 PI15, 65 PJ0, 66 PJ1, 67 PJ2, 68 PJ3, 69 PJ4, 70 PF11, 71 PF12, 72 VSS, 73 VDD, 74 PF13, 75 PF14, 76 PF15, 77 PG0, 78 PG1, 79 PE7, 80 PE8, 81 PE9, 82 VSS, 83 VDD, 84 PE10, 85 PE11, 86 PE12, 87 PE13, 88 PE14, 89 PE15, 90 PB10, 91 PB11, 92 VCAP_1, 93 VSS, 94 VDD, 95 PJ5, 96 PH6, 97 PH7, 98 PH8, 99 PH9, 100 PH10, 101 PH11, 102 PH12, 103 VDD, 104 PB12, 105 PB13, 106 PB14, 107 PB15, 108 PD8, 109 PD9, 110 PD10, 111 PD11, 112 PD12, 113 PD13, 114 VSS, 115 VDD, 116 PD14, 117 PD15, 118 VDD DSI, 119 VCAP DSI, 120 DSI_D0P, 121 DSI_D0N, 122 VSS DSI, 123 DSI_CKP, 124 DSI_CKN, 125 VDD12 DSI, 126 DSI_D1P, 127 DSI_D1N, 128 VSS DSI, 129 PG2, 130 PG3, 131 PG4, 132 PG5, 133 PG6, 134 PG7, 135 PG8, 136 VSS, 137 VDD USB, 138 PC6, 139 PC7, 140 PC8, 141 PC9, 142 PA8, 143 PA9, 144 PA10, 145 PA11, 146 PA12, 147 PA13, 148 VCAP_2, 149 VSS, 150 VDD, 151 PH13, 152 PH14, 153 PH15, 154 PI0, 155 PI1, 156 PI2, 157 PI3, 158 VDD, 159 PA14, 160 PA15, 161 PC10, 162 PC11, 163 PC12, 164 PD0, 165 PD1, 166 PD2, 167 PD3, 168 PD4, 169 PD5, 170 VSS, 171 VDD SDMMC, 172 PD6, 173 PD7, 174 PJ12, 175 PJ13, 176 PJ14, 177 PJ15, 178 PG9, 179 PG10, 180 PG11, 181 PG12, 182 PG13, 183 PG14, 184 VSS, 185 VDD, 186 PK3, 187 PK4, 188 PK5, 189 PK6, 190 PK7, 191 PG15, 192 PB3, 193 PB4, 194 PB5, 195 PB6, 196 PB7, 197 BOOT0, 198 PB8, 199 PB9, 200 PE0, 201 PE1, 202 VSS, 203 PDR_ON, 204 VDD, 205 PI4, 206 PI5, 207 PI6, 208 PI7

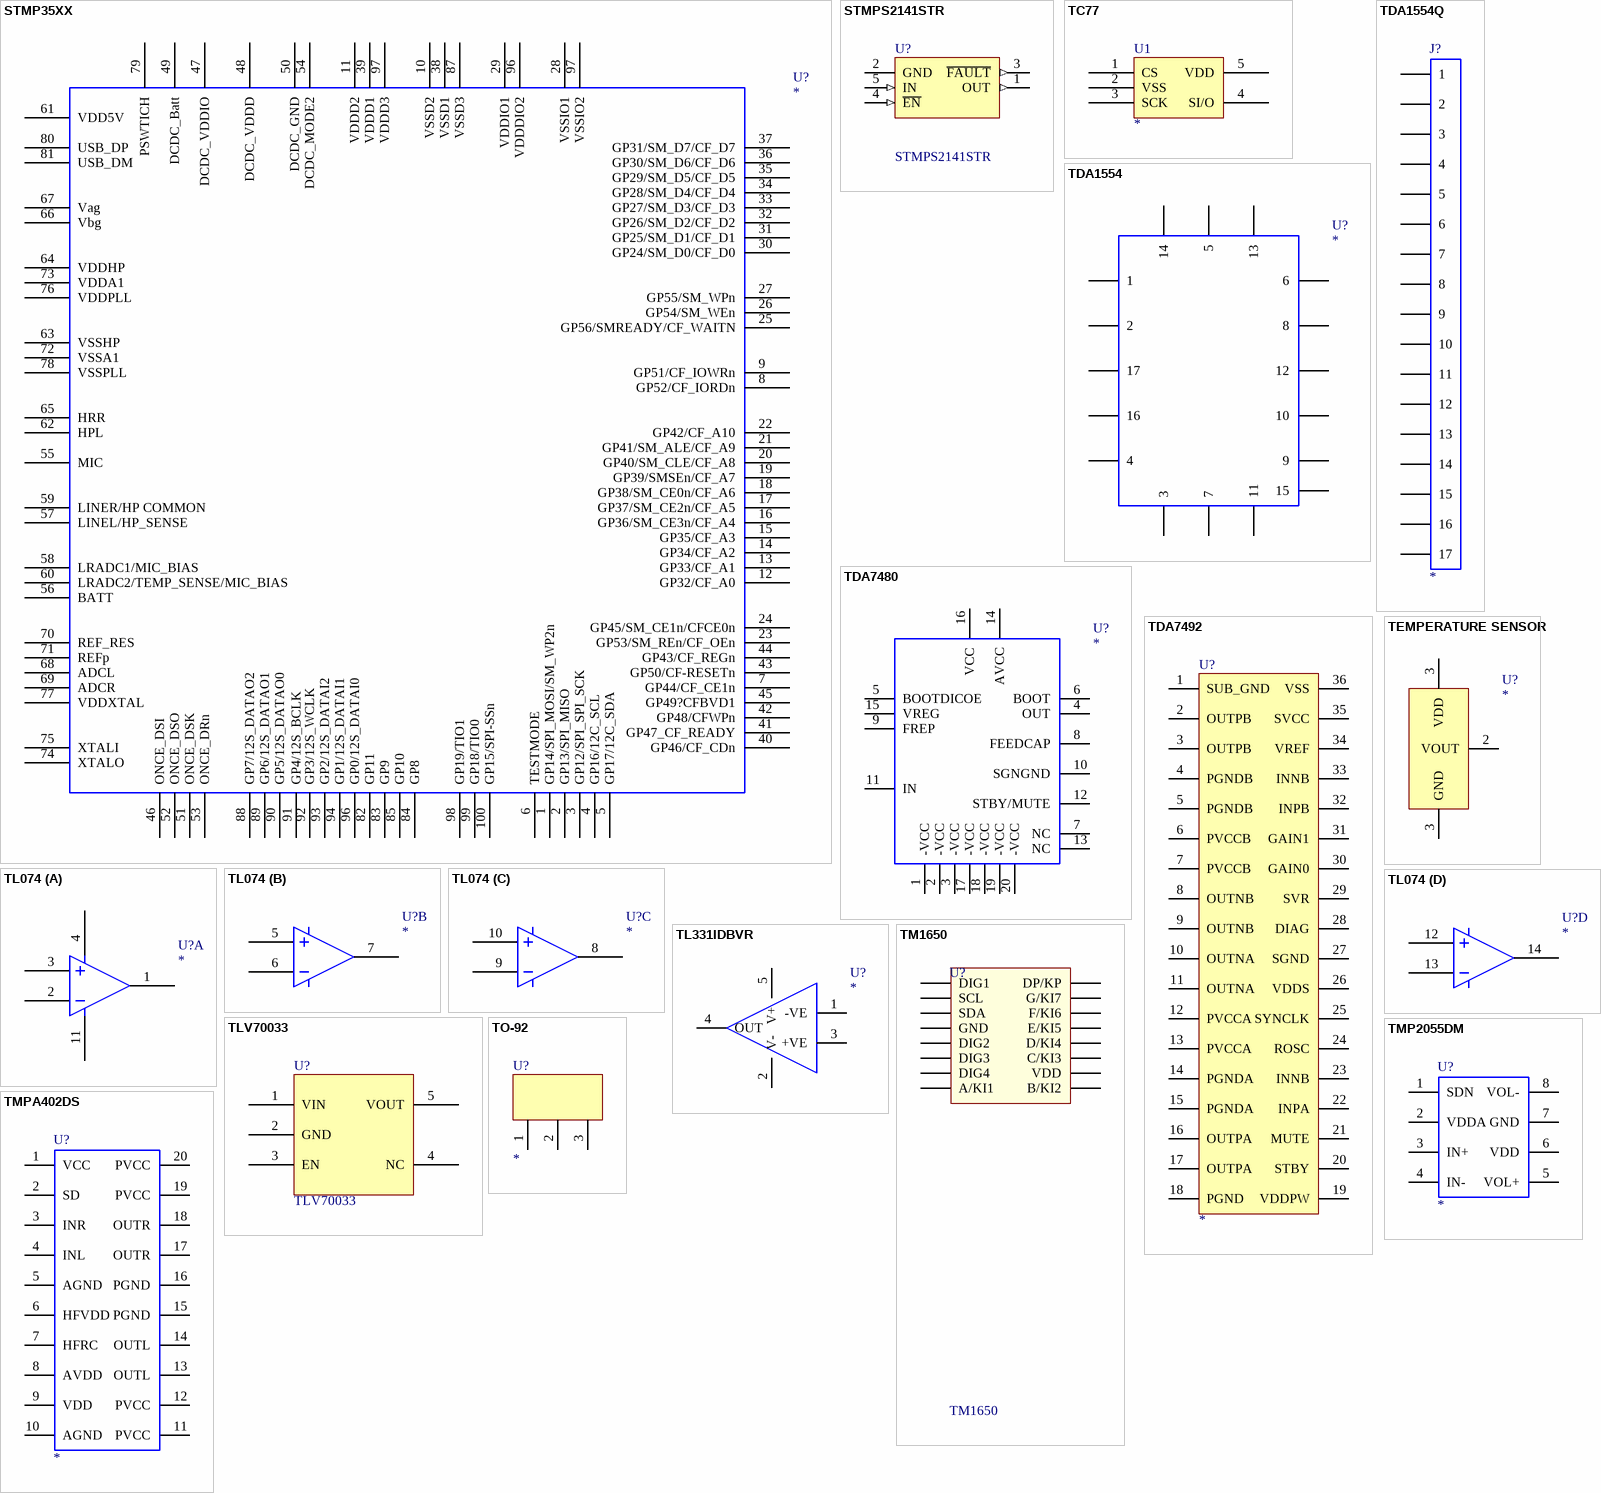
[diagram p16: symbols STMP35XX to TO-92]

## STMP35XX
designator U?
footprint 100TQFP
pins: 1 GP14/SPI_MOSI/SM_WP2n, 2 GP13/SPI_MISO, 3 GP12/SPI_SPI_SCK, 4 GP16/12C_SCL, 5 GP17/12C_SDA, 6 TESTMODE, 7 GP44/CF_CE1n, 8 GP52/CF_IORDn, 9 GP51/CF_IOWRn, 10 VSSD2, 11 VDDD2, 12 GP32/CF_A0, 13 GP33/CF_A1, 14 GP34/CF_A2, 15 GP35/CF_A3, 16 GP36/SM_CE3n/CF_A4, 17 GP37/SM_CE2n/CF_A5, 18 GP38/SM_CE0n/CF_A6, 19 GP39/SMSEn/CF_A7, 20 GP40/SM_CLE/CF_A8, 21 GP41/SM_ALE/CF_A9, 22 GP42/CF_A10, 23 GP53/SM_REn/CF_OEn, 24 GP45/SM_CE1n/CFCE0n, 25 GP56/SMREADY/CF_WAITN, 26 GP54/SM_WEn, 27 GP55/SM_WPn, 28 VSSIO1, 29 VDDIO1, 30 GP24/SM_D0/CF_D0, 31 GP25/SM_D1/CF_D1, 32 GP26/SM_D2/CF_D2, 33 GP27/SM_D3/CF_D3, 34 GP28/SM_D4/CF_D4, 35 GP29/SM_D5/CF_D5, 36 GP30/SM_D6/CF_D6, 37 GP31/SM_D7/CF_D7, 38 VSSD1, 39 VDDD1, 40 GP46/CF_CDn, 41 GP47_CF_READY, 42 GP48/CFWPn, 43 GP50/CF-RESETn, 44 GP43/CF_REGn, 45 GP49?CFBVD1, 46 ONCE_DSI, 47 DCDC_VDDIO, 48 DCDC_VDDD, 49 DCDC_Batt, 50 DCDC_GND, 51 ONCE_DSK, 52 ONCE_DSO, 53 ONCE_DRn, 54 DCDC_MODE2, 55 MIC, 56 BATT, 57 LINEL/HP_SENSE, 58 LRADC1/MIC_BIAS, 59 LINER/HP COMMON, 60 LRADC2/TEMP_SENSE/MIC_BIAS, 61 VDD5V, 62 HPL, 63 VSSHP, 64 VDDHP, 65 HRR, 66 Vbg, 67 Vag, 68 ADCL, 69 ADCR, 70 REF_RES, 71 REFp, 72 VSSA1, 73 VDDA1, 74 XTALO, 75 XTALI, 76 VDDPLL, 77 VDDXTAL, 78 VSSPLL, 79 PSWTICH, 80 USB_DP, 81 USB_DM, 82 GP11, 83 GP9, 84 GP8, 85 GP10, 87 VSSD3, 88 GP7/12S_DATAO2, 89 GP6/12S_DATAO1, 90 GP5/12S_DATAO0, 91 GP4/12S_BCLK, 92 GP3/12S_WCLK, 93 GP2/12S_DATAI2, 94 GP1/12S_DATAI1, 96 GP0/12S_DATAI0, 96 VDDDIO2, 97 VSSIO2, 97 VDDD3, 98 GP19/TIO1, 99 GP18/TIO0, 100 GP15/SPI-SSn

## STMPS2141STR
designator U?
Text Field1: 20; Text Field2: 10
pins: 1 OUT (out), 2 GND, 3 ~{FAULT} (out), 4 ~{EN} (in), 5 IN (in)

## TC77
designator U1
footprint SOT-23-5
pins: 1 CS, 2 VSS, 3 SCK, 4 SI/O, 5 VDD
2 alternate drawings of the same symbol

## TDA1554
designator U?
footprint DBS17P
pins: 1, 2, 3, 4, 5, 6, 7, 8, 9, 10, 11, 12, 13, 14, 15, 16, 17

## TDA1554Q
designator J?
footprint PIN18-90
footprint PIN18-S
pins: 1, 2, 3, 4, 5, 6, 7, 8, 9, 10, 11, 12, 13, 14, 15, 16, 17